# Altium schematic symbol library Schlib_Texas_Instruments.SchLib: 190 symbols (part 2 of 3)
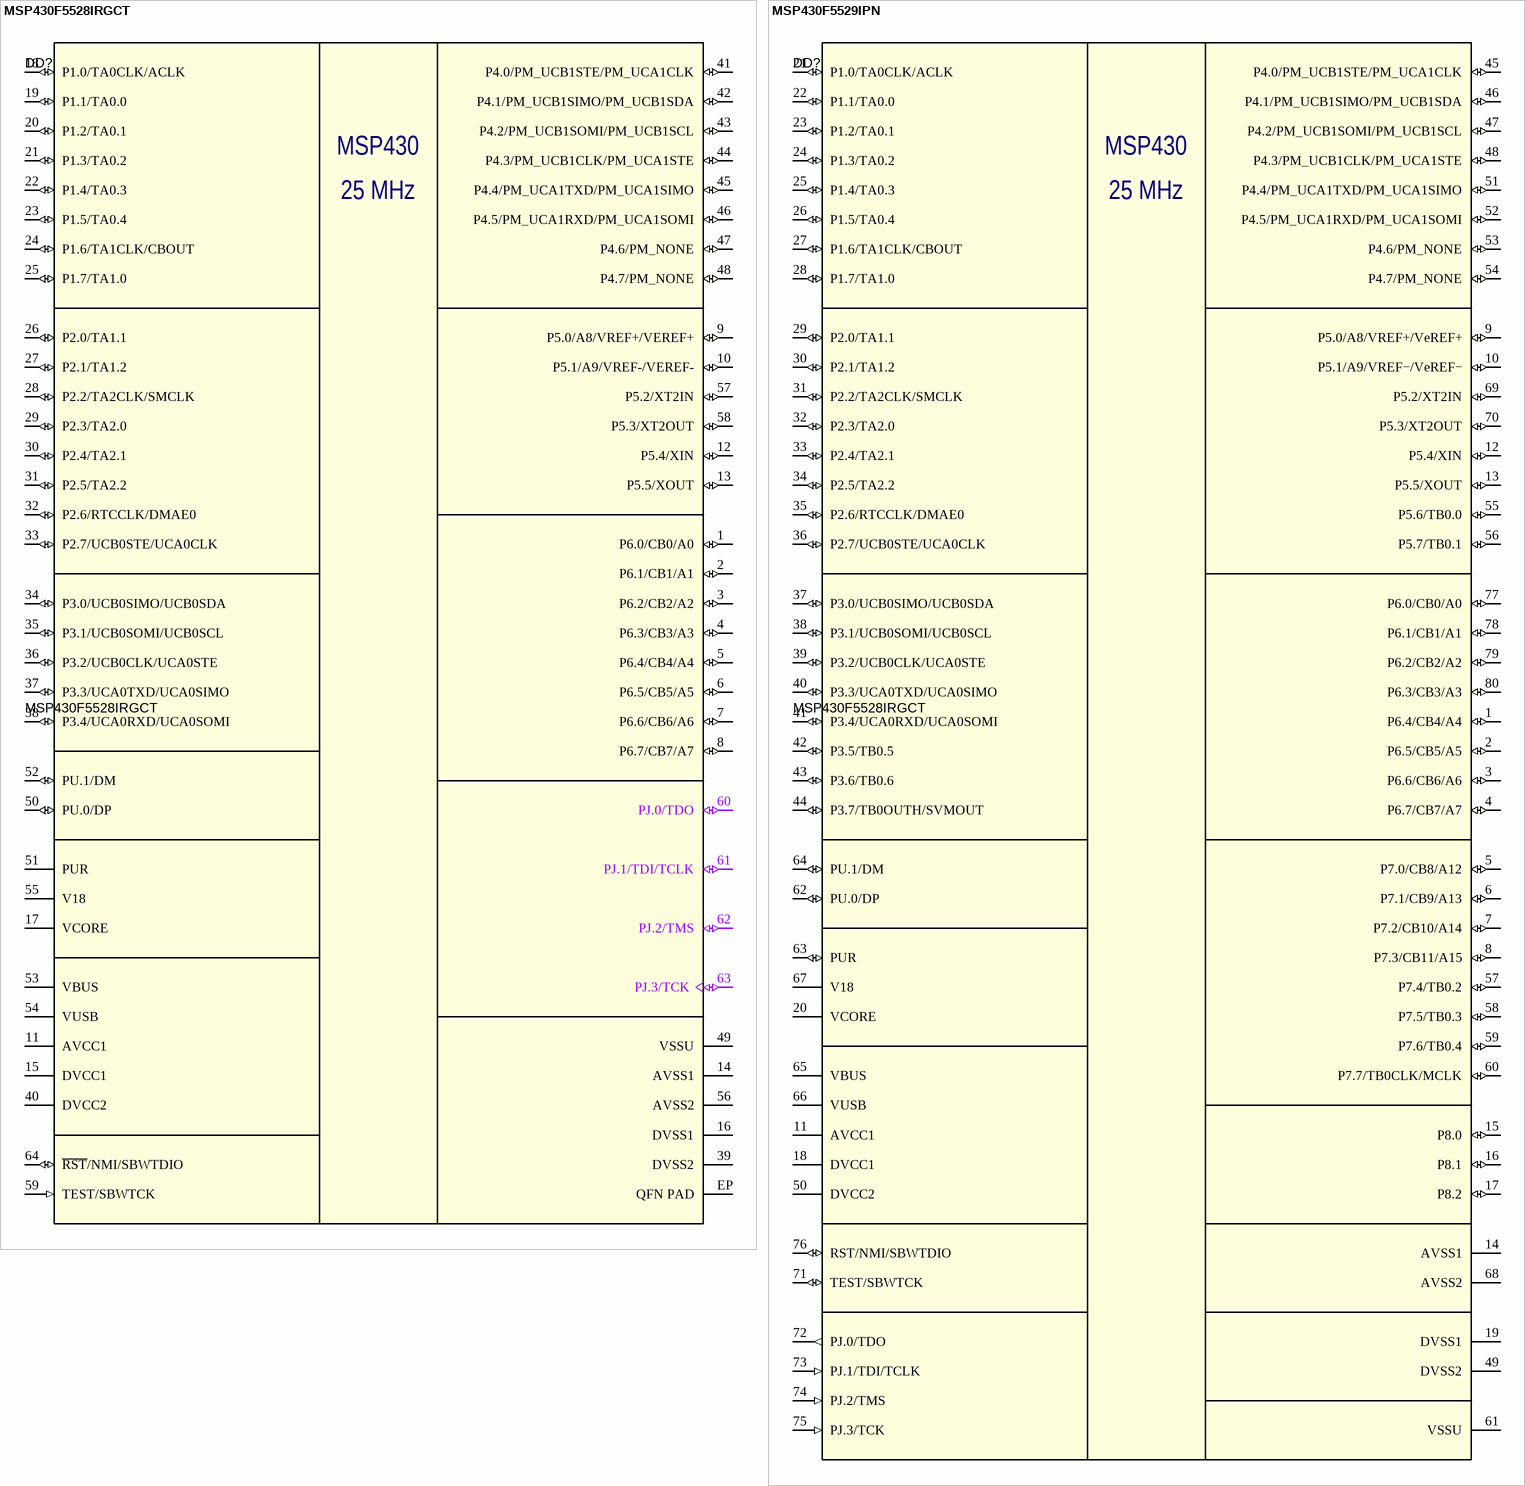
[diagram p26: symbols MSP430F5528IRGCT to MSP430F5529IPN]

## MSP430F5528IRGCT
designator DD?
25 MHz Mixed Signal Microcontroller with 128 KB Flash, 8192 B SRAM and 47 GPIOs, -40 to 85 degC, 64-pin QFN (RGC); Manufacturer: Texas Instruments; Alternate PartNumber: Equivalent; ADC: 12-bit SAR; ADC Channels: 16; Brown Out Reset: Yes; DMA: 3; Eco-Plan: Green (RoHS & no Sb/Br); Flash(KB): 128; Frequency(MHz): 25; GPIO: 47; Multiplier: 32x32; Pin/Package: 64DSBGA, 64VQFN, 80BGA MICROSTAR JUNIOR; SRAM(B): 8192; SubFamily: 5 Series; Timers - 16-bit: 4; USB: 1; USCI_A (UART/LIN/IrDA/SPI): 2; Note: TI Provided; DatasheetVersion: SLAS590I; PackageVersion: 4204106/F, 11/2011; PackageReference: RGC0064B; PackageDescription: 64-Pin Plastic Flat Pack, Body 9 x 9 mm, Pitch 0.5 mm; Comparators: Yes; Real-Time Clock: Yes; SVS: Yes; Temp Sensor: Yes; USCI_B (I2C & SPI): 2; Watchdog: Yes; MountType: SMT; ComponentLink1Description: Manufacturer URL; ComponentLink1URL: http://www.ti.com/; ComponentLink2Description: Datasheet; ComponentLink2URL: http://www.ti.com/general/docs/lit/getliterature.tsp?genericPartNumber=MSP430F5528&fileType=pdf; Part Number: MSP430F5528IRGCT
footprint QFN64 (QFN64 9mm x 9mm, 0.5mm pitch)
pins: 1 P6.0/CB0/A0 (io), 2 P6.1/CB1/A1 (io), 3 P6.2/CB2/A2 (io), 4 P6.3/CB3/A3 (io), 5 P6.4/CB4/A4 (io), 6 P6.5/CB5/A5 (io), 7 P6.6/CB6/A6 (io), 8 P6.7/CB7/A7 (io), 9 P5.0/A8/VREF+/VEREF+ (io), 10 P5.1/A9/VREF-/VEREF- (io), 11 AVCC1 (power) "Analog power supply", 12 P5.4/XIN (io), 13 P5.5/XOUT (io), 14 AVSS1 (power) "Analog ground supply", 15 DVCC1 (power) "Digital power supply", 16 DVSS1 (power) "Digital ground supply", 17 VCORE "Regulated core power supply output (internal use only, no external current loading)", 18 P1.0/TA0CLK/ACLK (io), 19 P1.1/TA0.0 (io), 20 P1.2/TA0.1 (io), 21 P1.3/TA0.2 (io), 22 P1.4/TA0.3 (io), 23 P1.5/TA0.4 (io), 24 P1.6/TA1CLK/CBOUT (io), 25 P1.7/TA1.0 (io), 26 P2.0/TA1.1 (io), 27 P2.1/TA1.2 (io), 28 P2.2/TA2CLK/SMCLK (io), 29 P2.3/TA2.0 (io), 30 P2.4/TA2.1 (io), 31 P2.5/TA2.2 (io), 32 P2.6/RTCCLK/DMAE0 (io), 33 P2.7/UCB0STE/UCA0CLK (io), 34 P3.0/UCB0SIMO/UCB0SDA (io), 35 P3.1/UCB0SOMI/UCB0SCL (io), 36 P3.2/UCB0CLK/UCA0STE (io), 37 P3.3/UCA0TXD/UCA0SIMO (io), 38 P3.4/UCA0RXD/UCA0SOMI (io), 39 DVSS2 (power) "Digital ground supply", 40 DVCC2 (power) "Digital power supply", 41 P4.0/PM_UCB1STE/PM_UCA1CLK (io), 42 P4.1/PM_UCB1SIMO/PM_UCB1SDA (io), 43 P4.2/PM_UCB1SOMI/PM_UCB1SCL (io), 44 P4.3/PM_UCB1CLK/PM_UCA1STE (io), 45 P4.4/PM_UCA1TXD/PM_UCA1SIMO (io), 46 P4.5/PM_UCA1RXD/PM_UCA1SOMI (io), 47 P4.6/PM_NONE (io), 48 P4.7/PM_NONE (io), 49 VSSU (power) "USB PHY ground supply", 50 PU.0/DP (io), 51 PUR "USB pullup resistor pin (open drain). The voltage level at the PUR pin is used to invoke the default USB BSL. Recommended 1-Mohm resistor to ground. See USB BSL for more information.", 52 PU.1/DM (io), 53 VBUS (power) "USB LDO input (connect to USB power source)", 54 VUSB (power) "USB LDO output", 55 V18 "USB regulated power (internal use only, no external current loading)", 56 AVSS2 (power) "Analog ground supply", 57 P5.2/XT2IN (io), 58 P5.3/XT2OUT (io), 59 TEST/SBWTCK (in), 60 PJ.0/TDO (io), 61 PJ.1/TDI/TCLK (io), 62 PJ.2/TMS (io), 63 PJ.3/TCK (io), 64 ~{RST}/NMI/SBWTDIO (io), EP QFN PAD (power) "QFN package pad connection to VSS recommended."
text: MSP430; 25 MHz

## MSP430F5529IPN
designator DD?, comment MSP430F5528IRGCT
25 MHz Mixed Signal Microcontroller with 128 KB Flash, 8KB SRAM and 63 GPIOs, -40 to 85 degC, 64-pin QFN (RGC); Manufacturer: Texas Instruments; Package: LQFP-80; ComponentLink1Description: Manufacturer URL; ComponentLink1URL: http://www.ti.com/; Part Number: MSP430F5528IRGCT
footprint LQFP-80 (LQFP, 80-Leads, Body 12,00x12,00mm, Pitch 0,50mm, IPC Medium Density)
pins: 1 P6.4/CB4/A4 (io), 2 P6.5/CB5/A5 (io), 3 P6.6/CB6/A6 (io), 4 P6.7/CB7/A7 (io), 5 P7.0/CB8/A12 (io), 6 P7.1/CB9/A13 (io), 7 P7.2/CB10/A14 (io), 8 P7.3/CB11/A15 (io), 9 P5.0/A8/VREF+/VeREF+ (io), 10 P5.1/A9/VREF−/VeREF− (io), 11 AVCC1 (power), 12 P5.4/XIN (io), 13 P5.5/XOUT (io), 14 AVSS1 (power), 15 P8.0 (io), 16 P8.1 (io), 17 P8.2 (io), 18 DVCC1 (power), 19 DVSS1 (power), 20 VCORE (power), 21 P1.0/TA0CLK/ACLK (io), 22 P1.1/TA0.0 (io), 23 P1.2/TA0.1 (io), 24 P1.3/TA0.2 (io), 25 P1.4/TA0.3 (io), 26 P1.5/TA0.4 (io), 27 P1.6/TA1CLK/CBOUT (io), 28 P1.7/TA1.0 (io), 29 P2.0/TA1.1 (io), 30 P2.1/TA1.2 (io), 31 P2.2/TA2CLK/SMCLK (io), 32 P2.3/TA2.0 (io), 33 P2.4/TA2.1 (io), 34 P2.5/TA2.2 (io), 35 P2.6/RTCCLK/DMAE0 (io), 36 P2.7/UCB0STE/UCA0CLK (io), 37 P3.0/UCB0SIMO/UCB0SDA (io), 38 P3.1/UCB0SOMI/UCB0SCL (io), 39 P3.2/UCB0CLK/UCA0STE (io), 40 P3.3/UCA0TXD/UCA0SIMO (io), 41 P3.4/UCA0RXD/UCA0SOMI (io), 42 P3.5/TB0.5 (io), 43 P3.6/TB0.6 (io), 44 P3.7/TB0OUTH/SVMOUT (io), 45 P4.0/PM_UCB1STE/PM_UCA1CLK (io), 46 P4.1/PM_UCB1SIMO/PM_UCB1SDA (io), 47 P4.2/PM_UCB1SOMI/PM_UCB1SCL (io), 48 P4.3/PM_UCB1CLK/PM_UCA1STE (io), 49 DVSS2 (power), 50 DVCC2 (power), 51 P4.4/PM_UCA1TXD/PM_UCA1SIMO (io), 52 P4.5/PM_UCA1RXD/PM_UCA1SOMI (io), 53 P4.6/PM_NONE (io), 54 P4.7/PM_NONE (io), 55 P5.6/TB0.0 (io), 56 P5.7/TB0.1 (io), 57 P7.4/TB0.2 (io), 58 P7.5/TB0.3 (io), 59 P7.6/TB0.4 (io), 60 P7.7/TB0CLK/MCLK (io), 61 VSSU (power), 62 PU.0/DP (io), 63 PUR (io), 64 PU.1/DM (io), 65 VBUS (power), 66 VUSB (power), 67 V18 (power), 68 AVSS2 (power), 69 P5.2/XT2IN (io), 70 P5.3/XT2OUT (io), 71 TEST/SBWTCK (io), 72 PJ.0/TDO (out), 73 PJ.1/TDI/TCLK (in), 74 PJ.2/TMS (in), 75 PJ.3/TCK (in), 76 RST/NMI/SBWTDIO (io), 77 P6.0/CB0/A0 (io), 78 P6.1/CB1/A1 (io), 79 P6.2/CB2/A2 (io), 80 P6.3/CB3/A3 (io)
text: MSP430; 25 MHz

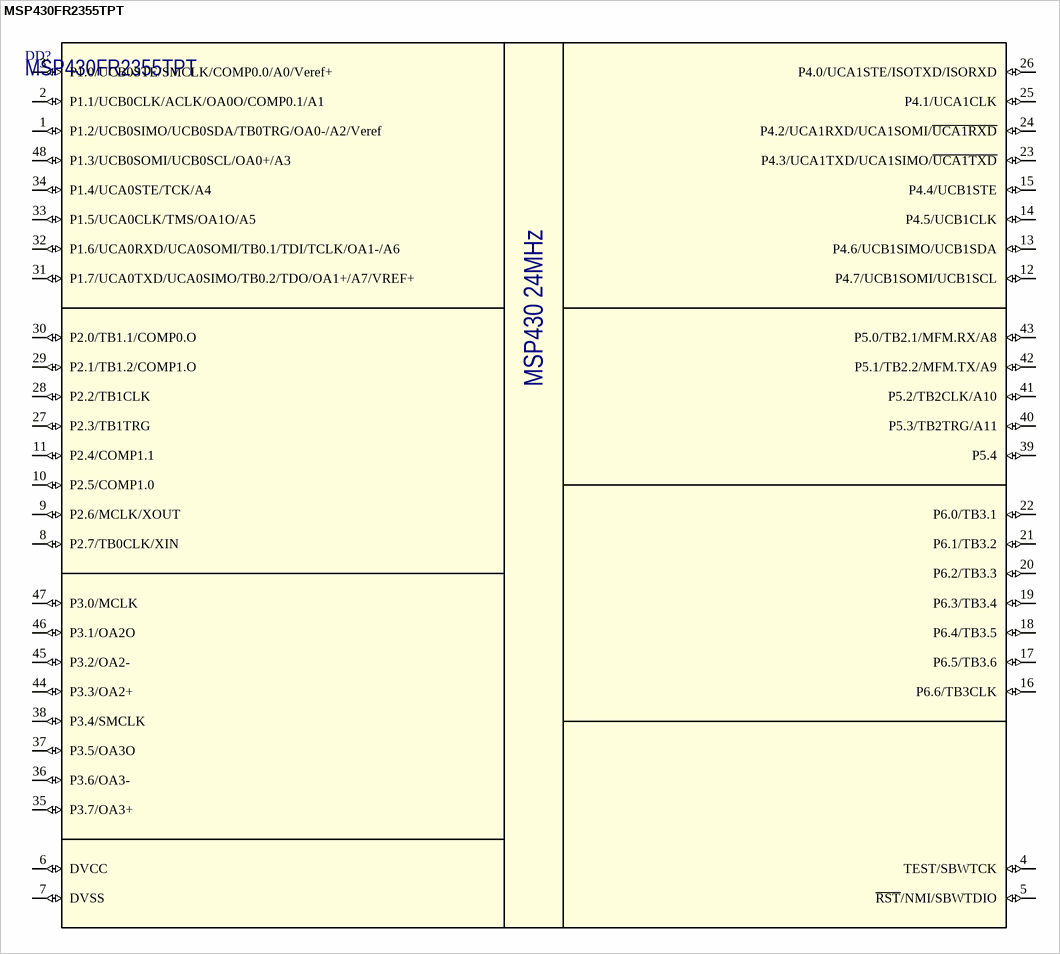
[diagram p12: symbol MSP430FR2355TPT]

## MSP430FR2355TPT
designator DD?
IC MCU 16BIT 32KB FRAM 48LQFP; Manufacturer: Texas Instruments; Part Number: MSP430FR2355TPT; Package: LQFP-48
footprint LQFP-48 (TSQFP, 48-Leads, Body 7,00x7,00mm, Pitch 0,50mm, IPC Medium Density)
pins: 1 P1.2/UCB0SIMO/UCB0SDA/TB0TRG/OA0-/A2/Veref (io), 2 P1.1/UCB0CLK/ACLK/OA0O/COMP0.1/A1 (io), 3 P1.0/UCB0STE/SMCLK/COMP0.0/A0/Veref+ (io), 4 TEST/SBWTCK (io), 5 ~{RST}/NMI/SBWTDIO (io), 6 DVCC (io), 7 DVSS (io), 8 P2.7/TB0CLK/XIN (io), 9 P2.6/MCLK/XOUT (io), 10 P2.5/COMP1.0 (io), 11 P2.4/COMP1.1 (io), 12 P4.7/UCB1SOMI/UCB1SCL (io), 13 P4.6/UCB1SIMO/UCB1SDA (io), 14 P4.5/UCB1CLK (io), 15 P4.4/UCB1STE (io), 16 P6.6/TB3CLK (io), 17 P6.5/TB3.6 (io), 18 P6.4/TB3.5 (io), 19 P6.3/TB3.4 (io), 20 P6.2/TB3.3 (io), 21 P6.1/TB3.2 (io), 22 P6.0/TB3.1 (io), 23 P4.3/UCA1TXD/UCA1SIMO/~{UCA1TXD} (io), 24 P4.2/UCA1RXD/UCA1SOMI/~{UCA1RXD} (io), 25 P4.1/UCA1CLK (io), 26 P4.0/UCA1STE/ISOTXD/ISORXD (io), 27 P2.3/TB1TRG (io), 28 P2.2/TB1CLK (io), 29 P2.1/TB1.2/COMP1.O (io), 30 P2.0/TB1.1/COMP0.O (io), 31 P1.7/UCA0TXD/UCA0SIMO/TB0.2/TDO/OA1+/A7/VREF+ (io), 32 P1.6/UCA0RXD/UCA0SOMI/TB0.1/TDI/TCLK/OA1-/A6 (io), 33 P1.5/UCA0CLK/TMS/OA1O/A5 (io), 34 P1.4/UCA0STE/TCK/A4 (io), 35 P3.7/OA3+ (io), 36 P3.6/OA3- (io), 37 P3.5/OA3O (io), 38 P3.4/SMCLK (io), 39 P5.4 (io), 40 P5.3/TB2TRG/A11 (io), 41 P5.2/TB2CLK/A10 (io), 42 P5.1/TB2.2/MFM.TX/A9 (io), 43 P5.0/TB2.1/MFM.RX/A8 (io), 44 P3.3/OA2+ (io), 45 P3.2/OA2- (io), 46 P3.1/OA2O (io), 47 P3.0/MCLK (io), 48 P1.3/UCB0SOMI/UCB0SCL/OA0+/A3 (io)
text: MSP430 24MHz

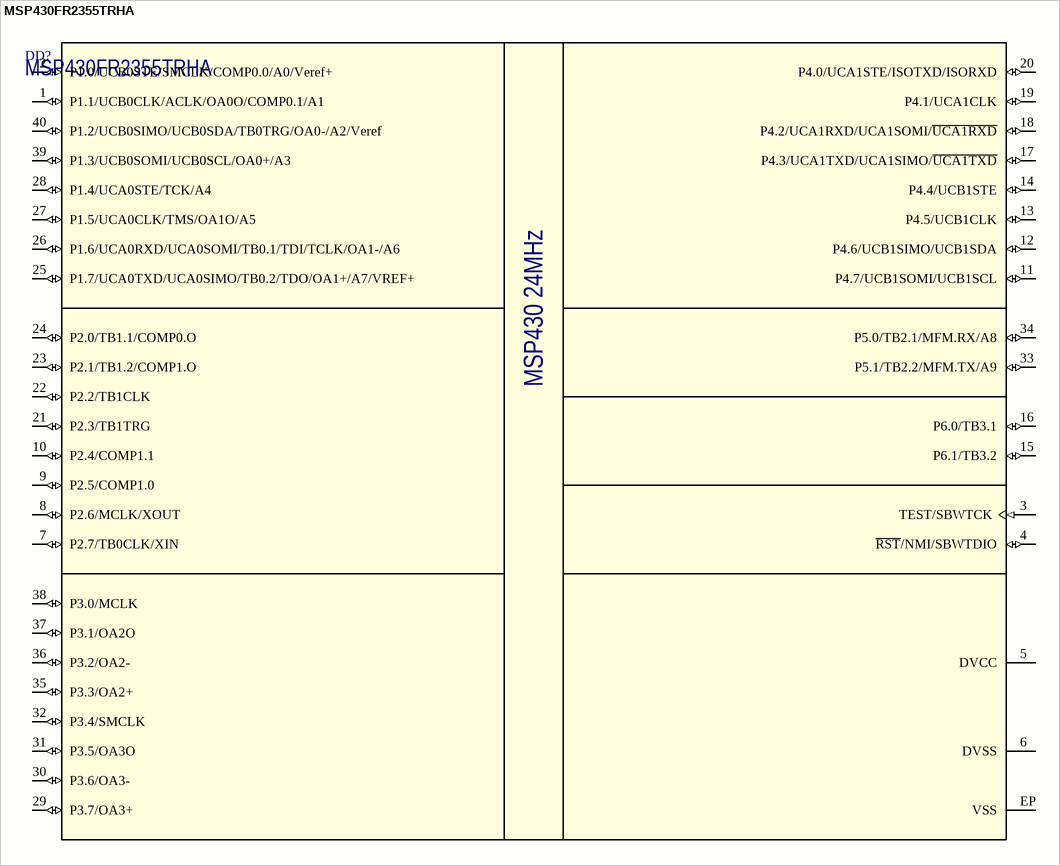
[diagram p13: symbol MSP430FR2355TRHA]

## MSP430FR2355TRHA
designator DD?
IC MCU 16BIT 32KB FRAM 40VQFN; Manufacturer: Texas Instruments; Part Number: MSP430FR2355TRHA; Package: VQFN-40
footprint PVQFN40
pins: 1 P1.1/UCB0CLK/ACLK/OA0O/COMP0.1/A1 (io), 2 P1.0/UCB0STE/SMCLK/COMP0.0/A0/Veref+ (io), 3 TEST/SBWTCK (in), 4 ~{RST}/NMI/SBWTDIO (io), 5 DVCC (power), 6 DVSS (power), 7 P2.7/TB0CLK/XIN (io), 8 P2.6/MCLK/XOUT (io), 9 P2.5/COMP1.0 (io), 10 P2.4/COMP1.1 (io), 11 P4.7/UCB1SOMI/UCB1SCL (io), 12 P4.6/UCB1SIMO/UCB1SDA (io), 13 P4.5/UCB1CLK (io), 14 P4.4/UCB1STE (io), 15 P6.1/TB3.2 (io), 16 P6.0/TB3.1 (io), 17 P4.3/UCA1TXD/UCA1SIMO/~{UCA1TXD} (io), 18 P4.2/UCA1RXD/UCA1SOMI/~{UCA1RXD} (io), 19 P4.1/UCA1CLK (io), 20 P4.0/UCA1STE/ISOTXD/ISORXD (io), 21 P2.3/TB1TRG (io), 22 P2.2/TB1CLK (io), 23 P2.1/TB1.2/COMP1.O (io), 24 P2.0/TB1.1/COMP0.O (io), 25 P1.7/UCA0TXD/UCA0SIMO/TB0.2/TDO/OA1+/A7/VREF+ (io), 26 P1.6/UCA0RXD/UCA0SOMI/TB0.1/TDI/TCLK/OA1-/A6 (io), 27 P1.5/UCA0CLK/TMS/OA1O/A5 (io), 28 P1.4/UCA0STE/TCK/A4 (io), 29 P3.7/OA3+ (io), 30 P3.6/OA3- (io), 31 P3.5/OA3O (io), 32 P3.4/SMCLK (io), 33 P5.1/TB2.2/MFM.TX/A9 (io), 34 P5.0/TB2.1/MFM.RX/A8 (io), 35 P3.3/OA2+ (io), 36 P3.2/OA2- (io), 37 P3.1/OA2O (io), 38 P3.0/MCLK (io), 39 P1.3/UCB0SOMI/UCB0SCL/OA0+/A3 (io), 40 P1.2/UCB0SIMO/UCB0SDA/TB0TRG/OA0-/A2/Veref (io), EP VSS (power)
text: MSP430 24MHz

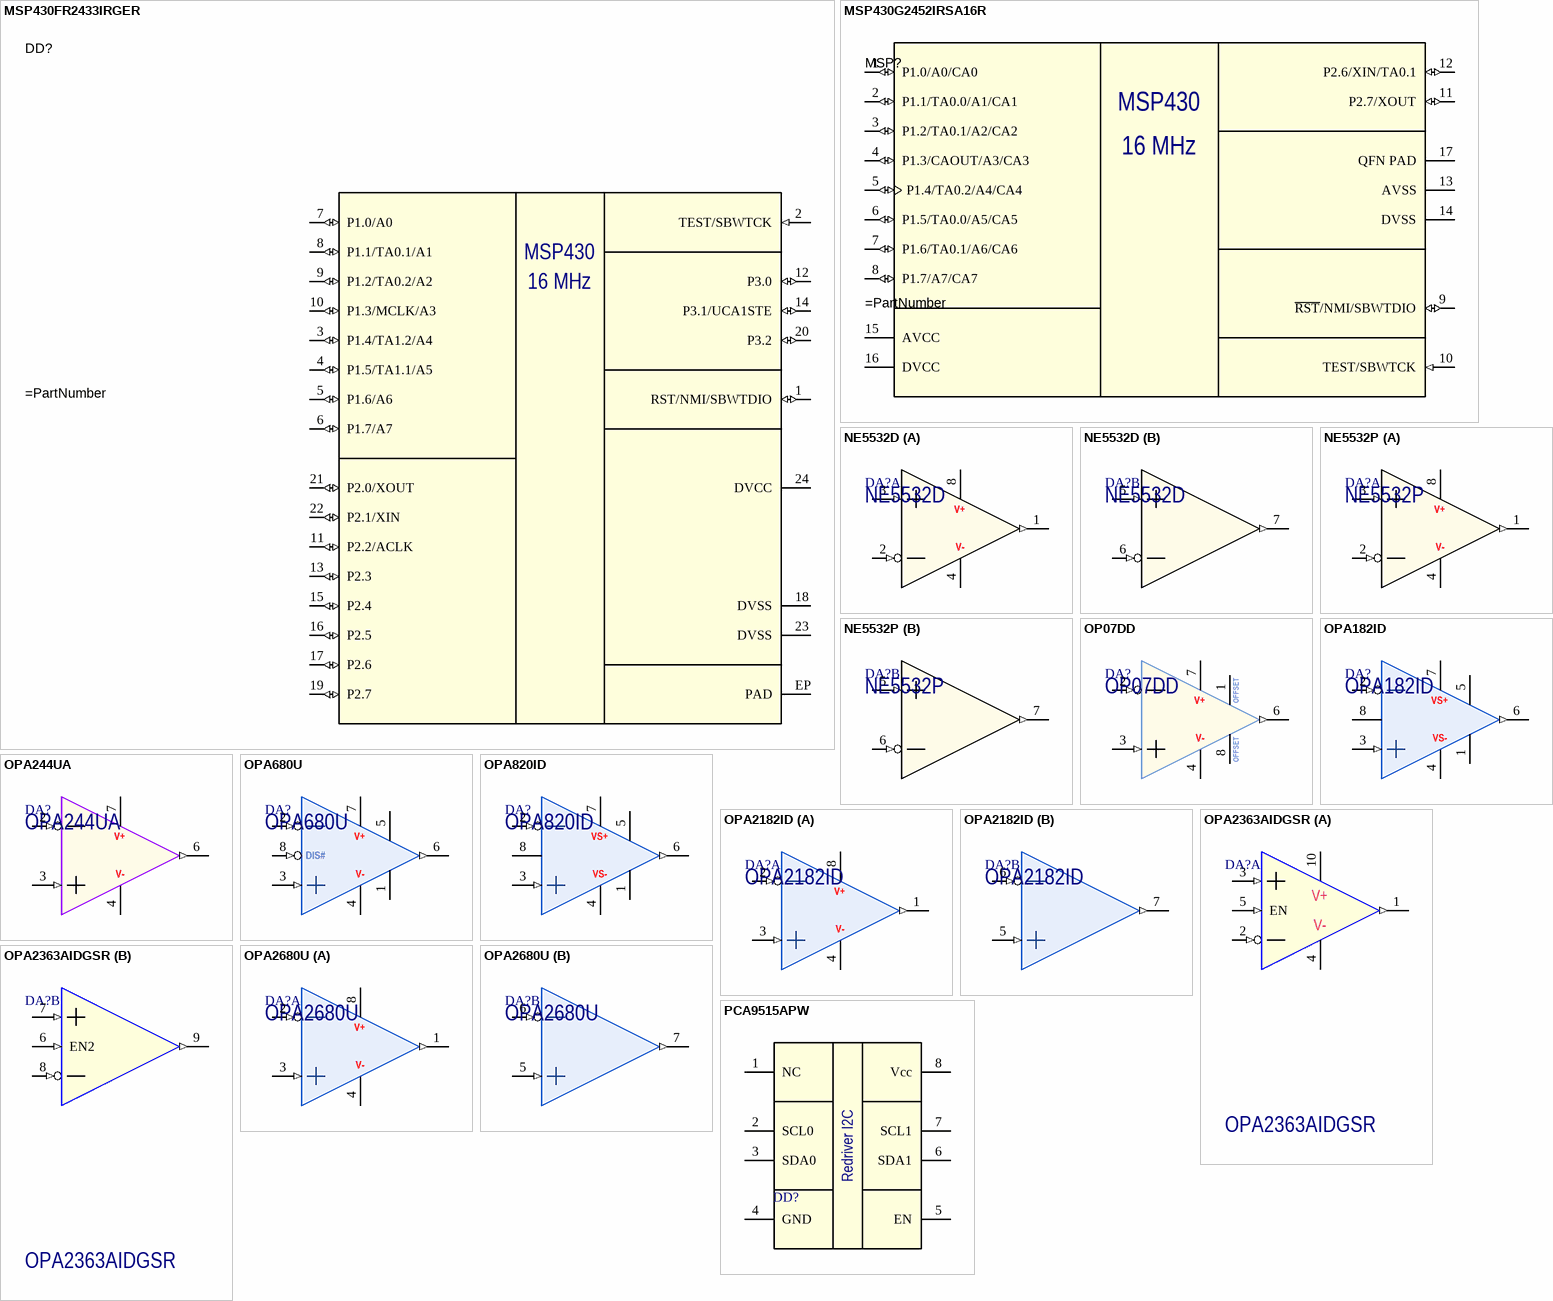
[diagram p14: symbols MSP430FR2433IRGER to PCA9515APW]

## MSP430FR2433IRGER
designator DD?
MSP430FR2433 16 MHz Ultra-Low-Power Microcontroller with 16 KB FRAM, 4 KB RAM, 19 IO, 4 Timers, RGE0024H (VQFN-24); Part Number: MSP430FR2433IRGER; Alternate Part Number: MSP430FR2433IRGET; Manufacturer: Texas Instruments; SymbolCreator: Altium; SizeArea_mm2: 16; SizeAreaWB_mm2: 25; SizeX_mm: 4; SizeZ_mm: 1; CompType: IC; U/M: EA; Note: TI Provided; SymbolVersion: 2015-09-16; PackageReference: RGE0024H; PackageDescription: VQFN-24; MountType: SMT; SizeY_mm: 4; ComponentLink1Description: Datasheet Link; ComponentLink1URL: http://www.ti.com/lit/ds/symlink/msp430fr2433.pdf; Publisher: Texas Instruments; LatestRevisionDate: 2017-03-06; Alternate Manufacturer: Texas Instruments
footprint QFN24 (QFN, 24-Leads, Body 4.00x4.00mm, Pitch 0.50mm, Thermal Pad 2.50x2.50mm, IPC Medium Density)
pins: 1 RST/NMI/SBWTDIO (io), 2 TEST/SBWTCK (in), 3 P1.4/TA1.2/A4 (io), 4 P1.5/TA1.1/A5 (io), 5 P1.6/A6 (io), 6 P1.7/A7 (io), 7 P1.0/A0 (io), 8 P1.1/TA0.1/A1 (io), 9 P1.2/TA0.2/A2 (io), 10 P1.3/MCLK/A3 (io), 11 P2.2/ACLK (io), 12 P3.0 (io), 13 P2.3 (io), 14 P3.1/UCA1STE (io), 15 P2.4 (io), 16 P2.5 (io), 17 P2.6 (io), 18 DVSS (power), 19 P2.7 (io), 20 P3.2 (io), 21 P2.0/XOUT (io), 22 P2.1/XIN (io), 23 DVSS (power), 24 DVCC (power), EP PAD (power)
text: MSP430; 16 MHz

## MSP430G2452IRSA16R
designator MSP?
16 MHz Mixed Signal Microcontroller with 8 KB Flash, 256 B SRAM and 16 GPIOs, 16-pin QFN (RSA), Green (RoHS & no Sb/Br); Manufacturer: Texas Instruments; Alternate PartNumber: Equivalent; Part Number: MSP430G2452IRSA16R; ADC: 10-bit SAR; ADC Channels: 8; Brown Out Reset: Yes; Frequency(MHz): 16; Pin/Package: 14TSSOP, 16QFN, 20PDIP, 20TSSOP; SRAM(B): 256; SubFamily: Value Line; Timers - 16-bit: 1; USI: (I2C/SPI); Note: TI Provided; DatasheetVersion: SLAS722E; PackageVersion: 4205141/D, 06/2011; PackageReference: RSA0016B; PackageDescription: 16-Pin Plastic Flat Pack, Body 4.00 x 4.00 mm, Pitch 0.65 mm; Cap touch I/O: Yes; Comparators: Yes; Eco-Plan: Green (RoHS & no Sb/Br); Flash(KB): 8; GPIO: 16; Temp Sensor: Yes; Watchdog: Yes; MountType: SMT; Code_JEDEC: MO-220; ComponentLink1Description: Manufacturer URL; ComponentLink1URL: http://www.ti.com/; ComponentLink2Description: Datasheet; ComponentLink2URL: http://www.ti.com/general/docs/lit/getliterature.tsp?genericPartNumber=MSP430G2452&fileType=pdf
pins: 1 P1.0/A0/CA0 (io), 2 P1.1/TA0.0/A1/CA1 (io), 3 P1.2/TA0.1/A2/CA2 (io), 4 P1.3/CAOUT/A3/CA3 (io), 5 P1.4/TA0.2/A4/CA4 (io), 6 P1.5/TA0.0/A5/CA5 (io), 7 P1.6/TA0.1/A6/CA6 (io), 8 P1.7/A7/CA7 (io), 9 ~{RST}/NMI/SBWTDIO (io), 10 TEST/SBWTCK (in), 11 P2.7/XOUT (io), 12 P2.6/XIN/TA0.1 (io), 13 AVSS (power) "Ground reference", 14 DVSS (power) "Ground reference", 15 AVCC (power) "Supply voltage", 16 DVCC (power) "Supply voltage", 17 QFN PAD (power) "QFN package pad connection to VSS recommended"
text: MSP430; 16 MHz

## NE5532D
designator DA?
DUAL LOW-NOISE OPERATIONAL AMPLIFIERS; Manufacturer: Texas Instruments; Part Number: NE5532D; Package: SOIC-8
footprint SOIC-8 (SOIC-8 package)
part A pins: 1 1OUT (out), 2 1IN- (in), 3 1IN+ (in), 4 GND (power), 8 VCC (power)
part B pins: 5 2IN+ (in), 6 2IN- (in), 7 2OUT (out)
part A text: V+; V-

## NE5532P
designator DA?
DUAL LOW-NOISE OPERATIONAL AMPLIFIERS; Manufacturer: Texas Instruments; Part Number: NE5532P; Package: DIP-8
footprint DIP-8P-M01 (Plastic DIP, 8 pin, lead pitch 2.54mm (0.1"), row spacing 7.62mm (0.3").)
footprint DIP-8P-M01_with_SO8 (Plastic DIP, 8 pin, lead pitch 2.54mm (0.1"), row spacing 7.62mm (0.3").)
part A pins: 1 1OUT (out), 2 1IN- (in), 3 1IN+ (in), 4 GND (power), 8 VCC (power)
part B pins: 5 2IN+ (in), 6 2IN- (in), 7 2OUT (out)
part A text: V+; V-

## OP07DD
designator DA?
Precision Operational Amplifiers; Manufacturer: Texas Instruments; Part Number: OP07DD; Package: SOIC-8
footprint SOIC-8 (SOIC-8 package)
pins: 1 OFFSET_N1 (power), 2 1IN- (in), 3 1IN+ (in), 4 V- (power), 6 1OUT (out), 7 V+ (power), 8 OFFSET_N2 (power)
text: OFFSET

## OPA182ID
designator DA?
5 MHz Low-Noise, Zero-Drift, Precision Op Amps; Manufacturer: Texas Instruments; Part Number: OPA182ID; Package: SOIC-8
footprint SOIC-8 (SOIC-8 package)
pins: 1 NC (hiz), 2 1IN- (in), 3 1IN+ (in), 4 V- (power), 5 NC (hiz), 6 1OUT (out), 7 V+ (power), 8 DIS (hiz)
text: VS+; VS-

## OPA244UA
designator DA?
Single-Supply Low Power Operational Amplifiers; Manufacturer: Texas Instruments; Part Number: OPA244UA; Package: SO-8
footprint SOIC-8 (SOIC-8 package)
pins: 2 1IN- (in), 3 1IN+ (in), 4 V- (power), 6 1OUT (out), 7 V+ (power)

## OPA680U
designator DA?
Wideband, Voltage Feedback / OPERATIONAL AMPLIFIER With Disable; Manufacturer: Texas Instruments; Part Number: OPA680U; Package: SO-8
footprint SOIC-8 (SOIC-8 package)
pins: 1 NC (hiz), 2 1IN- (in), 3 1IN+ (in), 4 V- (power), 5 NC (hiz), 6 1OUT (out), 7 V+ (power), 8 DIS (in)
text: DIS#

## OPA820ID
designator DA?
Voltage-Feedback Operational Amplifier; Manufacturer: Texas Instruments; Part Number: OPA820ID; Package: SOIC-8
footprint SOIC-8 (SOIC-8 package)
pins: 1 NC (hiz), 2 1IN- (in), 3 1IN+ (in), 4 V- (power), 5 NC (hiz), 6 1OUT (out), 7 V+ (power), 8 DIS (hiz)
text: VS+; VS-

## OPA2182ID
designator DA?
Dual 5 MHz Low-Noise, Zero-Drift, Precision Op Amps; Manufacturer: Texas Instruments; Part Number: OPA2182ID; Package: SO-8
footprint SOIC-8 (SOIC-8 package)
part A pins: 1 1OUT (out), 2 1IN- (in), 3 1IN+ (in), 4 V- (power), 8 V+ (power)
part B pins: 5 2IN+ (in), 6 2IN- (in), 7 2OUT (out)

## OPA2363AIDGSR
designator DA?
Single-Supply, Rail-to-Rail I/O  Operational Amplifier; Manufacturer: Texas Instruments; Part Number: OPA2363AIDGSR; Package: MSOP-10
footprint MSOP-10 (TSOP, 8-Leads, Body 3.00x3.00mm, Pitch 0.65mm, IPC Medium Density)
part A pins: 1 OUT1 (out), 2 IN1- (in), 3 IN1+ (in), 4 V- (power), 5 EN (in), 10 V+ (power)
part B pins: 6 EN2 (in), 7 IN2+ (in), 8 IN2- (in), 9 OUT2 (out)

## OPA2680U
designator DA?
Dual Wideband, Voltage Feedback / Operational Amplifier; Manufacturer: Texas Instruments; Part Number: OPA2680U; Package: SO-8
footprint SOIC-8 (SOIC-8 package)
part A pins: 1 1OUT (out), 2 1IN- (in), 3 1IN+ (in), 4 V- (power), 8 V+ (power)
part B pins: 5 2IN+ (in), 6 2IN- (in), 7 2OUT (out)

## PCA9515APW
designator DD?
1-Channel IC Redriver I2C; Manufacturer: Texas Instruments; Part Number: PCA9515APW; Package: TSSOP-8; Author: Sklyarov
footprint TSSOP-8 (TSOP, 8-Leads, Body 3,00x3,00mm, Pitch 0,65mm, IPC Medium Density)
pins: 1 NC, 2 SCL0, 3 SDA0, 4 GND, 5 EN, 6 SDA1, 7 SCL1, 8 Vcc
text: Redriver I2C

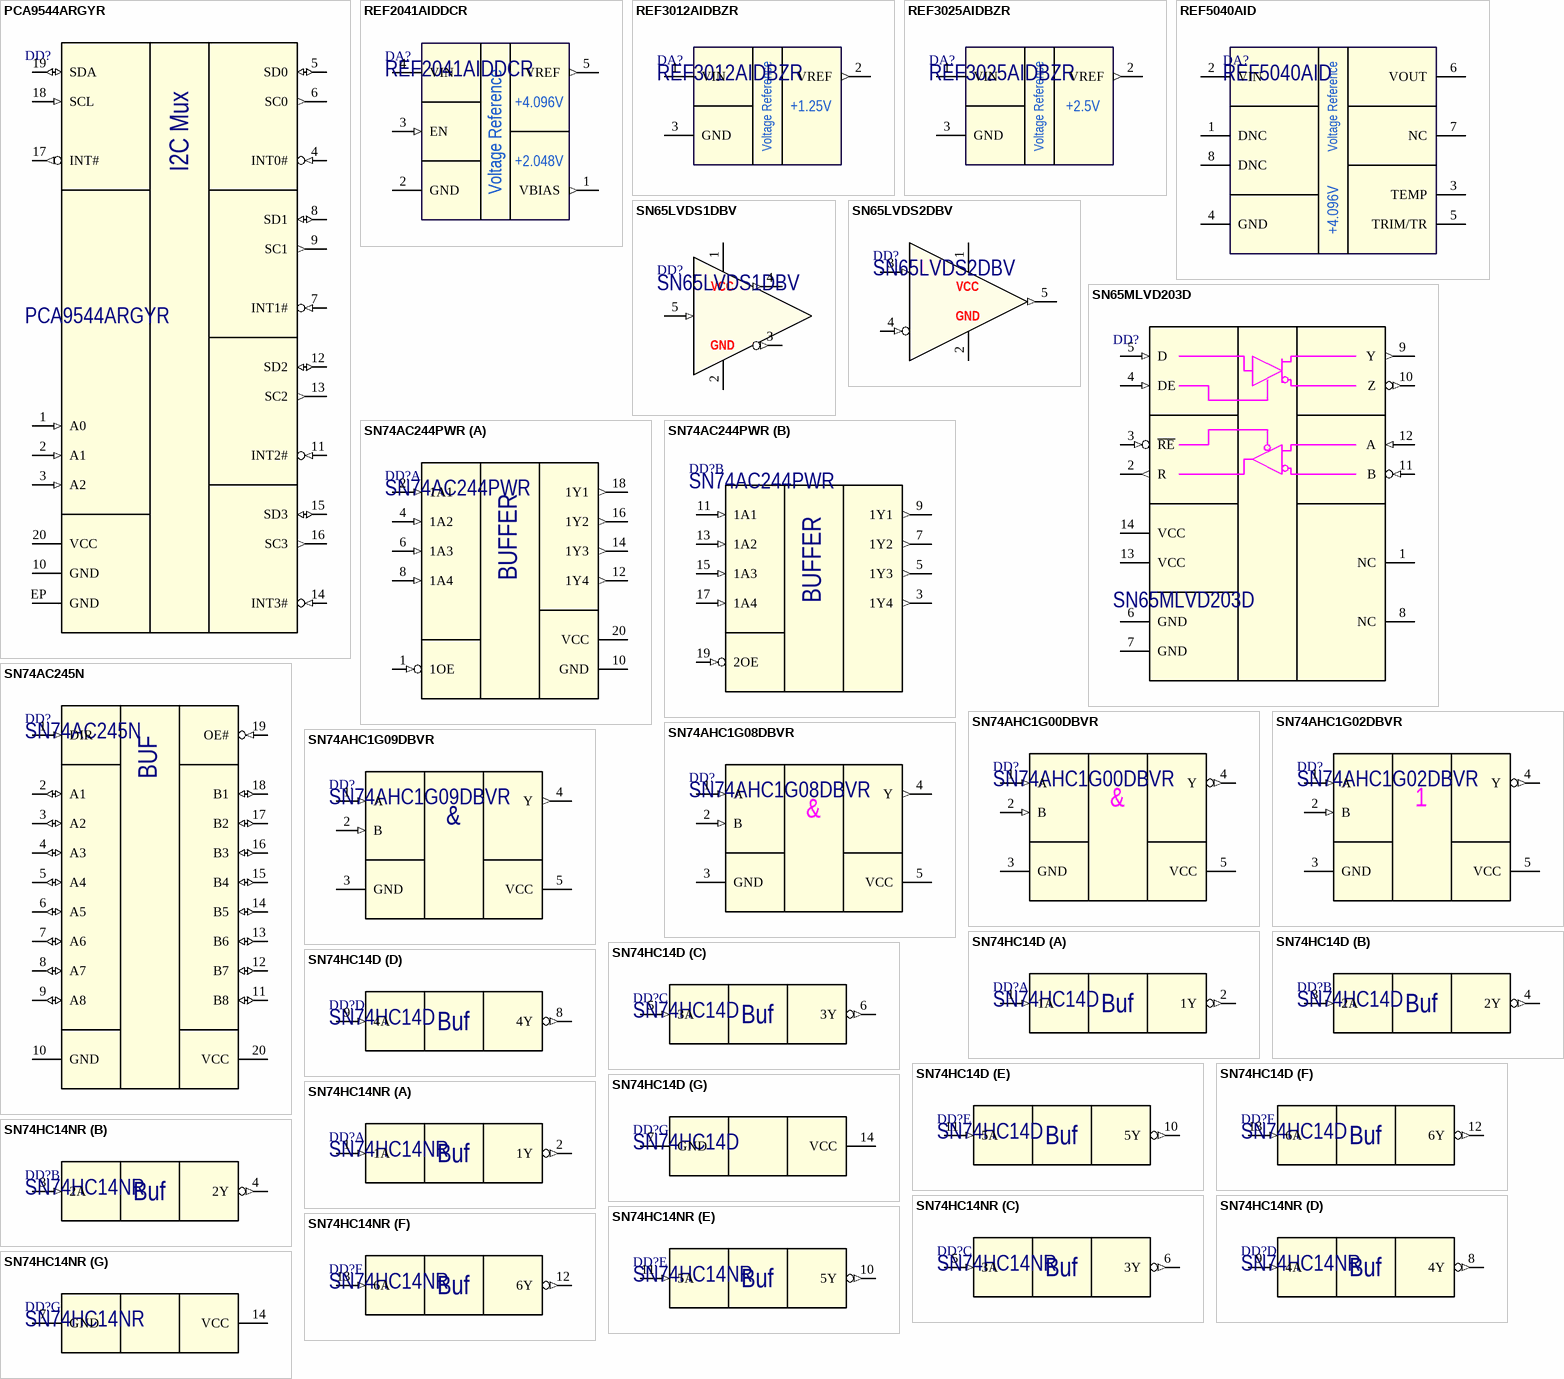
[diagram p15: symbols PCA9544ARGYR to SN74HC14NR]

## PCA9544ARGYR
designator DD?
Low Voltage 4-Channel I2C and SMBus Multiplexer With Interrupt Logic; Manufacturer: Texas Instruments; Part Number: PCA9544ARGYR; Package: VQFN-20
footprint VQFN-20(4.5x3.5) (VQFN-20 package 4.5x3.5mm with 0.5mm pitch)
pins: 1 A0 (in), 2 A1 (in), 3 A2 (in), 4 INT0# (in), 5 SD0 (io), 6 SC0 (out), 7 INT1# (in), 8 SD1 (io), 9 SC1 (out), 10 GND (power), 11 INT2# (in), 12 SD2 (io), 13 SC2 (out), 14 INT3# (in), 15 SD3 (io), 16 SC3 (out), 17 INT# (out), 18 SCL (in), 19 SDA (io), 20 VCC (power), EP GND (power)
text: I2C Mux

## REF2041AIDDCR
designator DA?
Low-Drift, Low-Power, Dual-Output,VREF and VREF / 2 Voltage References; Manufacturer: Texas Instruments; Part Number: REF2041AIDDCR; Package: SOT23-5
footprint SOT23-5 (SOT23, 6-Leads, Body 2.90x2.80mm, Pitch 0.95mm, IPC Medium Density)
pins: 1 VBIAS (out), 2 GND (power), 3 EN (in), 4 VIN (power), 5 VREF (out)
text: +4.096V; Voltage Reference; +2.048V

## REF3012AIDBZR
designator DA?
50-ppm/°C Max, 50-μA, CMOS Voltage Reference; Manufacturer: Texas Instruments; Part Number: REF3012AIDBZR; Package: SOT23-3
footprint SOT23-3 (SOT23, 6-Leads, Body 2.90x2.80mm, Pitch 0.95mm, IPC Medium Density)
pins: 1 VIN (power), 2 VREF (out), 3 GND (power)
text: Voltage Reference; +1.25V

## REF3025AIDBZR
designator DA?
50-ppm/°C Max, 50-μA, CMOS Voltage Reference; Manufacturer: Texas Instruments; Part Number: REF3025AIDBZR; Package: SOT23-3
footprint SOT23-3 (SOT23, 6-Leads, Body 2.90x2.80mm, Pitch 0.95mm, IPC Medium Density)
pins: 1 VIN (power), 2 VREF (out), 3 GND (power)
text: Voltage Reference; +2.5V

## REF5040AID
designator DA?
Low-Noise, Very Low Drift, Precision Voltage Reference; Manufacturer: Texas Instruments; Part Number: REF5040AID; Package: SOIC-8
footprint SOIC-8 (SOIC-8 package)
pins: 1 DNC (hiz), 2 VIN (power), 3 TEMP, 4 GND (power), 5 TRIM/TR, 6 VOUT (power), 7 NC (hiz), 8 DNC (hiz)
text: Voltage Reference; +4.096V

## SN65LVDS1DBV
designator DD?
High-Speed Differential Line Driver; Manufacturer: Texas Instruments; Part Number: SN65LVDS1DBV; Package: SOT23-5
footprint SOT23-5 (SOT23, 6-Leads, Body 2.90x2.80mm, Pitch 0.95mm, IPC Medium Density)
pins: 1 VCC (power), 2 GND (power), 3 Z (out), 4 Y (out), 5 D (in)

## SN65LVDS2DBV
designator DD?
High-Speed Differential Receiver; Manufacturer: Texas Instruments; Part Number: SN65LVDS2DBV; Package: SOT23-5
footprint SOT23-5 (SOT23, 6-Leads, Body 2.90x2.80mm, Pitch 0.95mm, IPC Medium Density)
pins: 1 VCC (power), 2 GND (power), 3 A (in), 4 B (in), 5 R (out)

## SN65MLVD203D
designator DD?
MULTIPOINT-LVDS LINE DRIVER AND RECEIVER; Manufacturer: Texas Instruments; Part Number: SN65MLVD203D; Package: SOIC-14
footprint SOIC-14 (package SOIC-14, 150 mil)
pins: 1 NC (hiz), 2 R (out), 3 ~{RE} (in), 4 DE (in), 5 D (in), 6 GND (power), 7 GND (power), 8 NC (hiz), 9 Y (out), 10 Z (out), 11 B (in), 12 A (in), 13 VCC (power), 14 VCC (power)

## SN74AC244PWR
designator DD?
OCTAL BUFFERS/DRIVERS WITH 3-STATE OUTPUTS; Manufacturer: Texas Instruments; Part Number: SN74AC244PWR; Package: TSSOP-20
footprint TSSOP-20 (TSOP, 20-Leads, Body 6.50x4.40mm, Pitch 0.65mm, IPC Medium Density)
part A pins: 1 1OE (in), 2 1A1 (in), 4 1A2 (in), 6 1A3 (in), 8 1A4 (in), 10 GND (power), 12 1Y4 (out), 14 1Y3 (out), 16 1Y2 (out), 18 1Y1 (out), 20 VCC (power)
part B pins: 3 1Y4 (out), 5 1Y3 (out), 7 1Y2 (out), 9 1Y1 (out), 11 1A1 (in), 13 1A2 (in), 15 1A3 (in), 17 1A4 (in), 19 2OE (in)
part A text: BUFFER
part B text: BUFFER

## SN74AC245N
designator DD?
8-bit Bus Transceiver with 3-state outputs; Manufacturer: Texas Instruments; Part Number: SN74AC245N; Package: DIP-20
footprint DIP-20P-M01 (Plastic DIP, 20 pin, lead pitch 2.54mm (0.1"), row spacing 7.62mm (0.3"))
pins: 1 DIR (in), 2 A1 (io), 3 A2 (io), 4 A3 (io), 5 A4 (io), 6 A5 (io), 7 A6 (io), 8 A7 (io), 9 A8 (io), 10 GND (power), 11 B8 (io), 12 B7 (io), 13 B6 (io), 14 B5 (io), 15 B4 (io), 16 B3 (io), 17 B2 (io), 18 B1 (io), 19 OE# (in), 20 VCC (power)
text: BUF

## SN74AHC1G00DBVR
designator DD?
Single 2–Input Positive-NAND Gate; Manufacturer: Texas Instruments; Part Number: SN74AHC1G00DBVR; Package: SOT23-5
footprint SOT23-5 (SOT23, 6-Leads, Body 2.90x2.80mm, Pitch 0.95mm, IPC Medium Density)
pins: 1 A (in), 2 B (in), 3 GND (power), 4 Y (out), 5 VCC (power)
text: &

## SN74AHC1G02DBVR
designator DD?
Single 2–Input Positive-NOR Gate; Manufacturer: Texas Instruments; Part Number: SN74AHC1G02DBVR; Package: SOT23-5
footprint SOT23-5 (SOT23, 6-Leads, Body 2.90x2.80mm, Pitch 0.95mm, IPC Medium Density)
pins: 1 A (in), 2 B (in), 3 GND (power), 4 Y (out), 5 VCC (power)

## SN74AHC1G08DBVR
designator DD?
Single 2–Input Positive-AND Gate; Manufacturer: Texas Instruments; Part Number: SN74AHC1G08DBVR; Package: SOT23-5
footprint SOT23-5 (SOT23, 6-Leads, Body 2.90x2.80mm, Pitch 0.95mm, IPC Medium Density)
pins: 1 A (in), 2 B (in), 3 GND (power), 4 Y (out), 5 VCC (power)
text: &

## SN74AHC1G09DBVR
designator DD?
Single 2–Input Positive-AND Gate With Open-Drain Output; Manufacturer: Texas Instruments; Part Number: SN74AHC1G09DBVR; Package: SOT23-5
footprint SOT23-5 (SOT23, 6-Leads, Body 2.90x2.80mm, Pitch 0.95mm, IPC Medium Density)
pins: 1 A (in), 2 B (in), 3 GND (power), 4 Y (out), 5 VCC (power)
text: &

## SN74HC14D
designator DD?
Hex Inverters with Schmitt-Trigger Inputs; Manufacturer: Texas Instruments; Part Number: SN74HC14D; Package: SOIC-14
footprint SOIC-14 (package SOIC-14, 150 mil)
part A pins: 1 1A (in), 2 1Y (out)
part B pins: 3 2A (in), 4 2Y (out)
part C pins: 5 3A (in), 6 3Y (out)
part D pins: 8 4Y (out), 9 4A (in)
part E pins: 10 5Y (out), 11 5A (in)
part F pins: 12 6Y (out), 13 6A (in)
part G pins: 7 GND (power), 14 VCC (power)
part A text: Buf
part B text: Buf
part C text: Buf
part D text: Buf
part E text: Buf
part F text: Buf

## SN74HC14NR
designator DD?
Hex Inverters with Schmitt-Trigger Inputs; Manufacturer: Texas Instruments; Part Number: SN74HC14NR; Package: DIP-14
footprint DIP-14P-M02 (Plastic DIP, 14 pin, lead pitch 2.54mm (0.1"), row spacing 7.62mm (0.3"))
part A pins: 1 1A (in), 2 1Y (out)
part B pins: 3 2A (in), 4 2Y (out)
part C pins: 5 3A (in), 6 3Y (out)
part D pins: 8 4Y (out), 9 4A (in)
part E pins: 10 5Y (out), 11 5A (in)
part F pins: 12 6Y (out), 13 6A (in)
part G pins: 7 GND (power), 14 VCC (power)
part A text: Buf
part B text: Buf
part C text: Buf
part D text: Buf
part E text: Buf
part F text: Buf

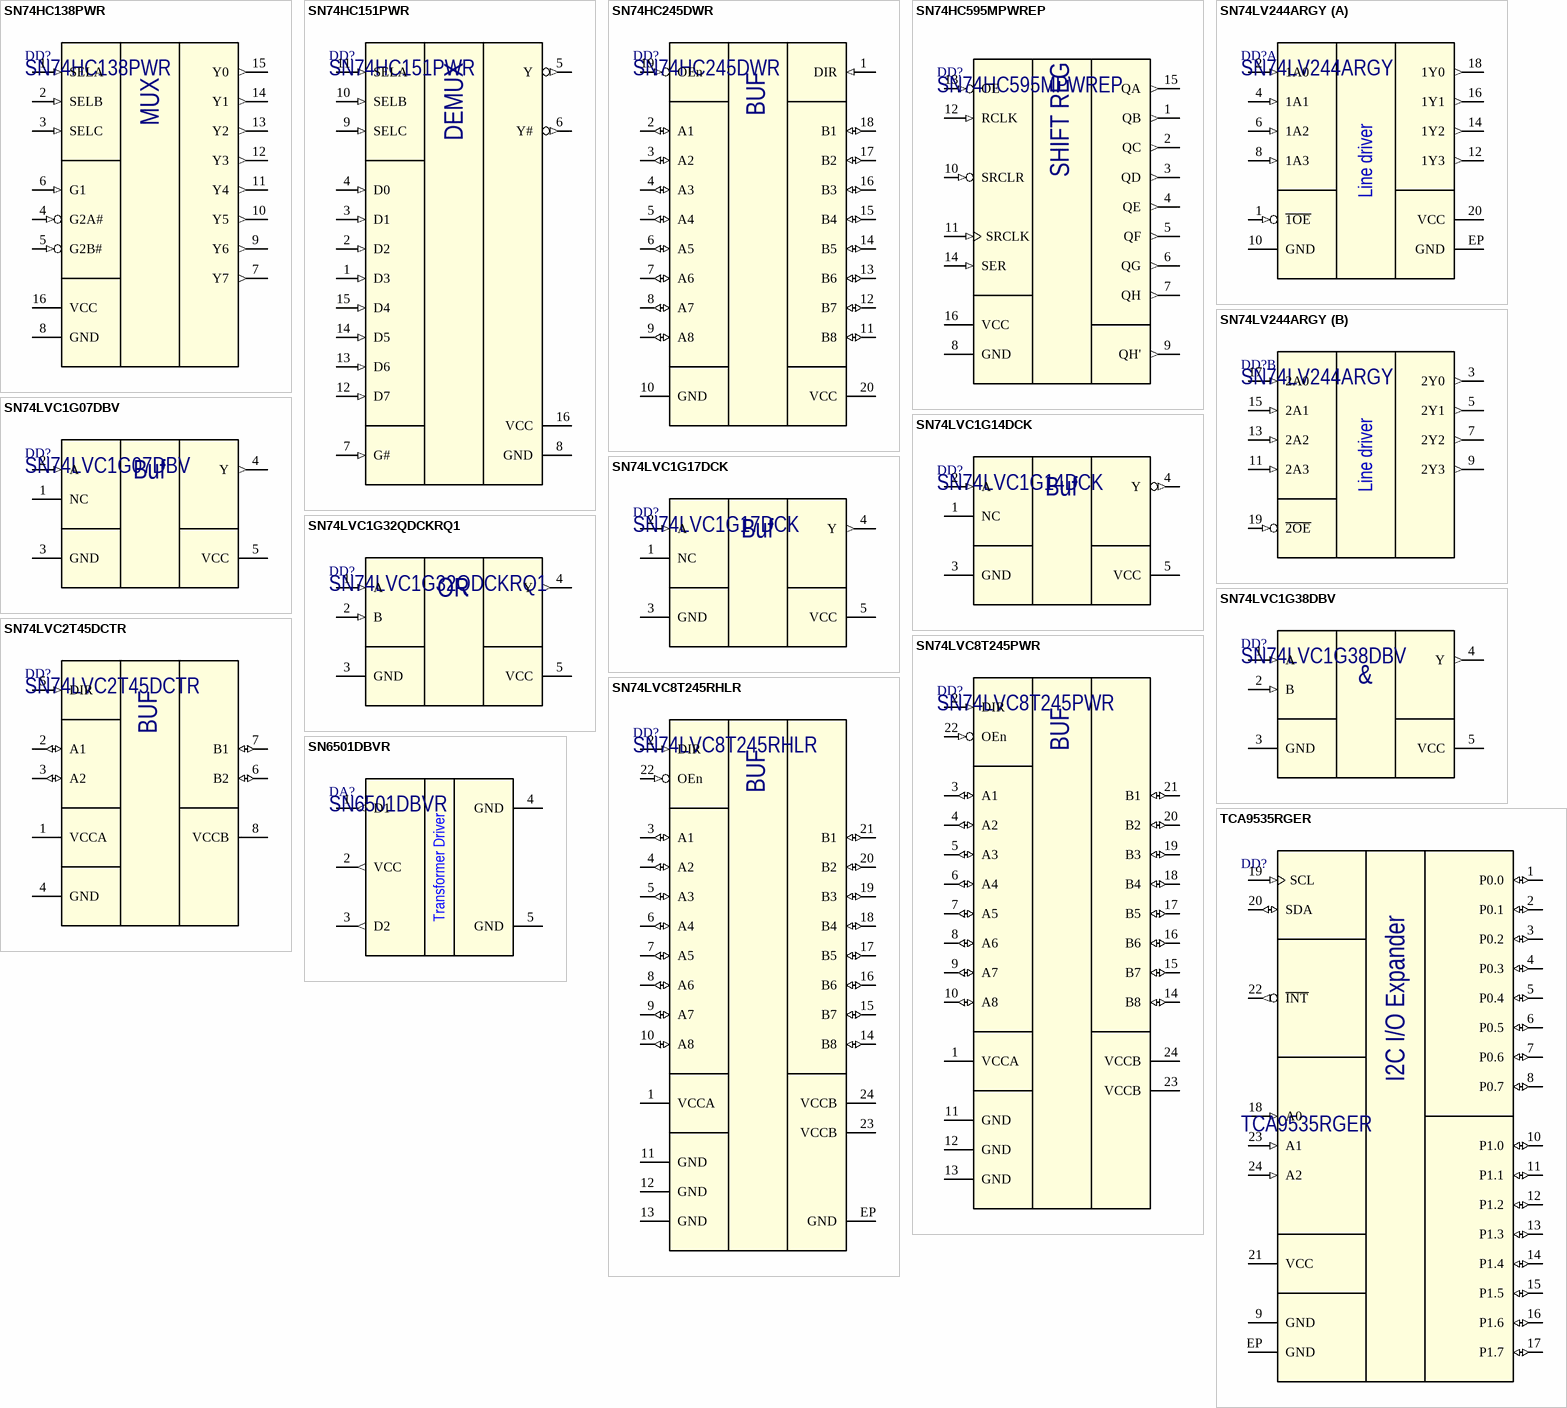
[diagram p16: symbols SN74HC138PWR to TCA9535RGER]

## SN74HC138PWR
designator DD?
8-BIT Multiplexer; Manufacturer: Texas Instruments; Part Number: SN74HC138PWR; Package: TSSOP-16
footprint TSSOP-16 (TSOP, 20-Leads, Body 6.50x4.40mm, Pitch 0.65mm, IPC Medium Density)
pins: 1 SELA (in), 2 SELB (in), 3 SELC (in), 4 G2A# (in), 5 G2B# (in), 6 G1 (in), 7 Y7 (out), 8 GND (power), 9 Y6 (out), 10 Y5 (out), 11 Y4 (out), 12 Y3 (out), 13 Y2 (out), 14 Y1 (out), 15 Y0 (out), 16 VCC (power)
text: MUX

## SN74HC151PWR
designator DD?
8-LINE TO 1-LINE DATA SELECTORS; Manufacturer: Texas Instruments; Part Number: SN74HC151PWR; Package: TSSOP-16
footprint TSSOP-16 (TSOP, 20-Leads, Body 6.50x4.40mm, Pitch 0.65mm, IPC Medium Density)
pins: 1 D3 (in), 2 D2 (in), 3 D1 (in), 4 D0 (in), 5 Y (out), 6 Y# (out), 7 G# (in), 8 GND (power), 9 SELC (in), 10 SELB (in), 11 SELA (in), 12 D7 (in), 13 D6 (in), 14 D5 (in), 15 D4 (in), 16 VCC (power)
text: DEMUX

## SN74HC245DWR
designator DD?
8-bit Bus Transceiver; Manufacturer: Texas Instruments; Part Number: SN74HC245DWR; Package: SO-20
footprint SOIC-20N (SOIC, 20-Leads, Body 12.80x7.50mm, Pitch 1.27mm, IPC Medium Density)
pins: 1 DIR (in), 2 A1 (io), 3 A2 (io), 4 A3 (io), 5 A4 (io), 6 A5 (io), 7 A6 (io), 8 A7 (io), 9 A8 (io), 10 GND (power), 11 B8 (io), 12 B7 (io), 13 B6 (io), 14 B5 (io), 15 B4 (io), 16 B3 (io), 17 B2 (io), 18 B1 (io), 19 OEn (in), 20 VCC (power)
text: BUF

## SN74HC595MPWREP
designator DD?
8-BIT SHIFT REGISTERS WITH 3-STATE OUTPUT REGISTERS; Manufacturer: Texas Instruments; Part Number: SN74HC595MPWREP; Package: TSSOP-16
footprint TSSOP-16 (TSOP, 20-Leads, Body 6.50x4.40mm, Pitch 0.65mm, IPC Medium Density)
pins: 1 QB (out), 2 QC (out), 3 QD (out), 4 QE (out), 5 QF (out), 6 QG (out), 7 QH (out), 8 GND (power), 9 QH' (out), 10 SRCLR (in), 11 SRCLK (in), 12 RCLK (in), 13 OE (in), 14 SER (in), 15 QA (out), 16 VCC (power)
text: SHIFT REG

## SN74LV244ARGY
designator DD?
Line driver 8 bits; Manufacturer: Texas Instruments; Package: VQFN-20; Part Number: SN74LV244ARGY
footprint VQFN-20(4.5x3.5) (VQFN-20 package 4.5x3.5mm with 0.5mm pitch)
part A pins: 1 ~{1OE} (in), 2 1A0 (in), 4 1A1 (in), 6 1A2 (in), 8 1A3 (in), 10 GND (power), 12 1Y3 (out), 14 1Y2 (out), 16 1Y1 (out), 18 1Y0 (out), 20 VCC (power), EP GND (power)
part B pins: 3 2Y0 (out), 5 2Y1 (out), 7 2Y2 (out), 9 2Y3 (out), 11 2A3 (in), 13 2A2 (in), 15 2A1 (in), 17 2A0 (in), 19 ~{2OE} (in)
part A text: Line driver
part B text: Line driver

## SN74LVC1G07DBV
designator DD?
Single Buffer/Driver With Open-Drain Output; Manufacturer: Texas Instruments; Part Number: SN74LVC1G07DBV; Package: SOT23-5
footprint SOT23-5 (SOT23, 6-Leads, Body 2.90x2.80mm, Pitch 0.95mm, IPC Medium Density)
pins: 1 NC (hiz), 2 A (in), 3 GND (power), 4 Y (out), 5 VCC (power)
text: Buf

## SN74LVC1G14DCK
designator DD?
Single Schmitt-Trigger Inverter; Manufacturer: Texas Instruments; Part Number: SN74LVC1G14DCK; Package: SC70-5
footprint SC70-5
pins: 1 NC (hiz), 2 A (in), 3 GND (power), 4 Y (out), 5 VCC (power)
text: Buf

## SN74LVC1G17DCK
designator DD?
Single Schmitt-Trigger Buffer; Manufacturer: Texas Instruments; Part Number: SN74LVC1G17DCK; Package: SC70-5
footprint SC70-5
pins: 1 NC (hiz), 2 A (in), 3 GND (power), 4 Y (out), 5 VCC (power)
text: Buf

## SN74LVC1G32QDCKRQ1
designator DD?
Single 2-Input Positive-OR Gate; Manufacturer: Texas Instruments; Part Number: SN74LVC1G32QDCKRQ1; Package: SC70-5
footprint SC70-5
pins: 1 A (in), 2 B (in), 3 GND (power), 4 Y (out), 5 VCC (power)
text: OR

## SN74LVC1G38DBV
designator DD?
Single 2-Input NAND Gate With Open-Drain Output; Manufacturer: Texas Instruments; Part Number: SN74LVC1G38DBV; Package: SOT23-5
footprint SOT23-5 (SOT23, 6-Leads, Body 2.90x2.80mm, Pitch 0.95mm, IPC Medium Density)
pins: 1 A (in), 2 B (in), 3 GND (power), 4 Y (out), 5 VCC (power)
text: &

## SN74LVC2T45DCTR
designator DD?
2-bit Dual-Supply Bus Transceiver; Manufacturer: Texas Instruments; Part Number: SN74LVC2T45DCTR; Package: SSOP-8
footprint SM8 (8-Leads, Body 2.8x2.95mm, Pitch 0.65mm, IPC Medium Density)
pins: 1 VCCA (power), 2 A1 (io), 3 A2 (io), 4 GND (power), 5 DIR (in), 6 B2 (io), 7 B1 (io), 8 VCCB (power)
text: BUF

## SN74LVC8T245PWR
designator DD?
8-bit Dual-Supply Bus Transceiver; Manufacturer: Texas Instruments; Part Number: SN74LVC8T245PWR; Package: TSSOP-24
footprint TSSOP-24 (TSOP, 24-Leads, Pitch 0.65mm, IPC Medium Density)
pins: 1 VCCA (power), 2 DIR (in), 3 A1 (io), 4 A2 (io), 5 A3 (io), 6 A4 (io), 7 A5 (io), 8 A6 (io), 9 A7 (io), 10 A8 (io), 11 GND (power), 12 GND (power), 13 GND (power), 14 B8 (io), 15 B7 (io), 16 B6 (io), 17 B5 (io), 18 B4 (io), 19 B3 (io), 20 B2 (io), 21 B1 (io), 22 OEn (in), 23 VCCB (power), 24 VCCB (power)
text: BUF

## SN74LVC8T245RHLR
designator DD?
8-bit Dual-Supply Bus Transceiver; Manufacturer: Texas Instruments; Part Number: SN74LVC8T245RHLR; Package: VQFN-24
footprint VQFN-24 (VQFN-24 package 5.5x3.5mm with 0.5mm pitch)
pins: 1 VCCA (power), 2 DIR (in), 3 A1 (io), 4 A2 (io), 5 A3 (io), 6 A4 (io), 7 A5 (io), 8 A6 (io), 9 A7 (io), 10 A8 (io), 11 GND (power), 12 GND (power), 13 GND (power), 14 B8 (io), 15 B7 (io), 16 B6 (io), 17 B5 (io), 18 B4 (io), 19 B3 (io), 20 B2 (io), 21 B1 (io), 22 OEn (in), 23 VCCB (power), 24 VCCB (power), EP GND (power)
text: BUF

## SN6501DBVR
designator DA?
Transformer Driver for Isolated Power Supplies; Manufacturer: Texas Instruments; Part Number: SN6501DBVR; Package: SOT23-5
footprint SOT23-5 (SOT23, 6-Leads, Body 2.90x2.80mm, Pitch 0.95mm, IPC Medium Density)
pins: 1 D1 (out), 2 VCC (out), 3 D2 (out), 4 GND (power), 5 GND (power)
text: Transformer Driver

## TCA9535RGER
designator DD?
Low-Voltage 16-Bit I2C and SMBus I/O / Expander with Interrupt Output and Configuration Registers; Manufacturer: Texas Instruments; Part Number: TCA9535RGER; Package: VQFN-24
footprint QFN24_RGE0024B (QFN, 24-Leads, Body 4.00x4.00mm, Pitch 0.50mm, Thermal Pad 2.50x2.50mm, IPC Medium Density)
pins: 1 P0.0 (io), 2 P0.1 (io), 3 P0.2 (io), 4 P0.3 (io), 5 P0.4 (io), 6 P0.5 (io), 7 P0.6 (io), 8 P0.7 (io), 9 GND (power), 10 P1.0 (io), 11 P1.1 (io), 12 P1.2 (io), 13 P1.3 (io), 14 P1.4 (io), 15 P1.5 (io), 16 P1.6 (io), 17 P1.7 (io), 18 A0 (in), 19 SCL (in), 20 SDA (io), 21 VCC (power), 22 ~{INT} (out), 23 A1 (in), 24 A2 (in), EP GND (power)
text: I2C I/O Expander

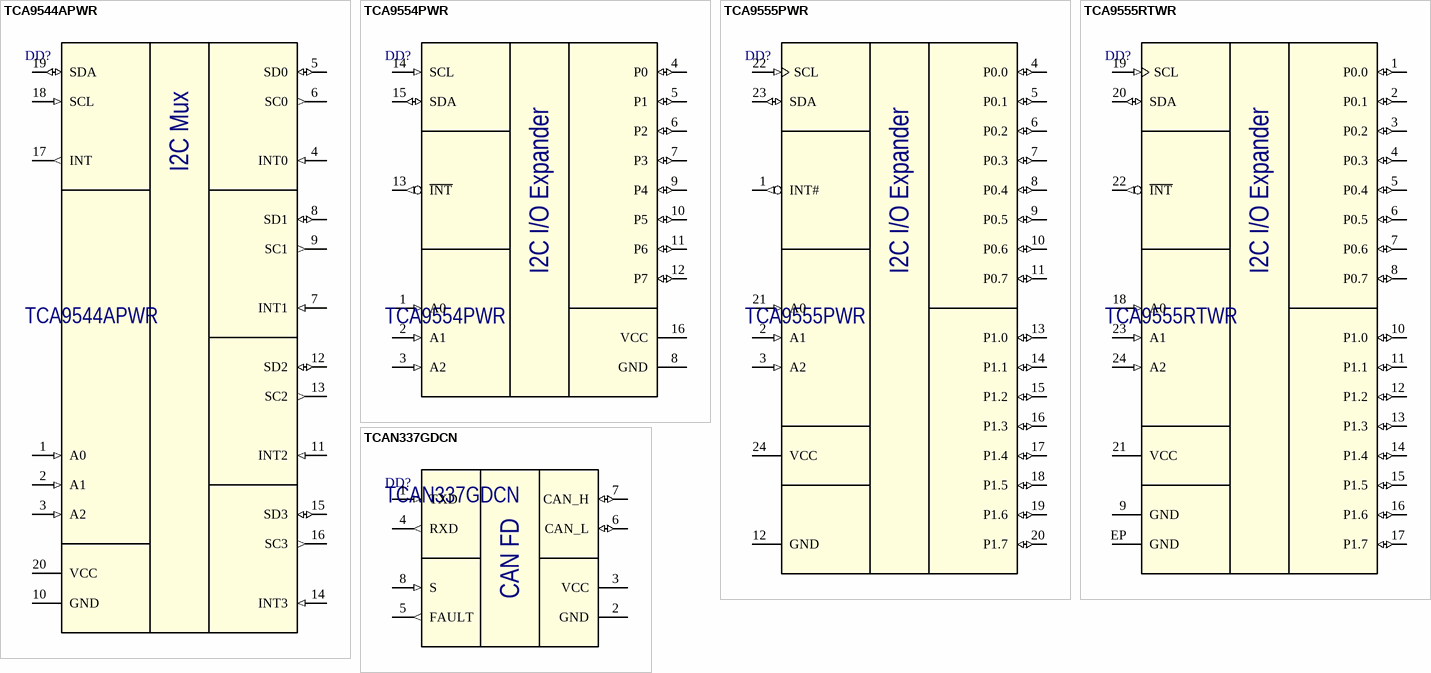
[diagram p17: symbols TCA9544APWR to TCAN337GDCN]

## TCA9544APWR
designator DD?
Low Voltage 4-Channel I2C and SMBus Multiplexer With Interrupt Logic; Manufacturer: Texas Instruments; Part Number: TCA9544APWR; Package: TSSOP-20
footprint TSSOP-20 (TSOP, 20-Leads, Body 6.50x4.40mm, Pitch 0.65mm, IPC Medium Density)
pins: 1 A0 (in), 2 A1 (in), 3 A2 (in), 4 INT0 (in), 5 SD0 (io), 6 SC0 (out), 7 INT1 (in), 8 SD1 (io), 9 SC1 (out), 10 GND (power), 11 INT2 (in), 12 SD2 (io), 13 SC2 (out), 14 INT3 (in), 15 SD3 (io), 16 SC3 (out), 17 INT (out), 18 SCL (in), 19 SDA (io), 20 VCC (power)
text: I2C Mux

## TCA9554PWR
designator DD?
8-Bit I2C and SMBus Low-Power I/O Expander With Interrupt Output and Configuration Registers; Manufacturer: Texas Instruments; Part Number: TCA9554PWR; Package: TSSOP-20
footprint TSSOP-16 (TSOP, 20-Leads, Body 6.50x4.40mm, Pitch 0.65mm, IPC Medium Density)
pins: 1 A0 (in), 2 A1 (in), 3 A2 (in), 4 P0 (io), 5 P1 (io), 6 P2 (io), 7 P3 (io), 8 GND (power), 9 P4 (io), 10 P5 (io), 11 P6 (io), 12 P7 (io), 13 ~{INT} (out), 14 SCL (in), 15 SDA (io), 16 VCC (power)
text: I2C I/O Expander

## TCA9555PWR
designator DD?
Low-Voltage 16-Bit I2C and SMBus I/O / Expander with Interrupt Output and Configuration Registers; Manufacturer: Texas Instruments; Part Number: TCA9555PWR; Package: TSSOP-24
footprint TSSOP-24 (TSOP, 24-Leads, Pitch 0.65mm, IPC Medium Density)
pins: 1 INT# (out), 2 A1 (in), 3 A2 (in), 4 P0.0 (io), 5 P0.1 (io), 6 P0.2 (io), 7 P0.3 (io), 8 P0.4 (io), 9 P0.5 (io), 10 P0.6 (io), 11 P0.7 (io), 12 GND (power), 13 P1.0 (io), 14 P1.1 (io), 15 P1.2 (io), 16 P1.3 (io), 17 P1.4 (io), 18 P1.5 (io), 19 P1.6 (io), 20 P1.7 (io), 21 A0 (in), 22 SCL (in), 23 SDA (io), 24 VCC (power)
text: I2C I/O Expander

## TCA9555RTWR
designator DD?
Low-Voltage 16-Bit I2C and SMBus I/O / Expander with Interrupt Output and Configuration Registers; Manufacturer: Texas Instruments; Part Number: TCA9555RTWR; Package: WQFN-24
footprint QFN24 (QFN, 24-Leads, Body 4.00x4.00mm, Pitch 0.50mm, Thermal Pad 2.50x2.50mm, IPC Medium Density)
pins: 1 P0.0 (io), 2 P0.1 (io), 3 P0.2 (io), 4 P0.3 (io), 5 P0.4 (io), 6 P0.5 (io), 7 P0.6 (io), 8 P0.7 (io), 9 GND (power), 10 P1.0 (io), 11 P1.1 (io), 12 P1.2 (io), 13 P1.3 (io), 14 P1.4 (io), 15 P1.5 (io), 16 P1.6 (io), 17 P1.7 (io), 18 A0 (in), 19 SCL (in), 20 SDA (io), 21 VCC (power), 22 ~{INT} (out), 23 A1 (in), 24 A2 (in), EP GND (power)
text: I2C I/O Expander

## TCAN337GDCN
designator DD?
Single Schmitt-Trigger Buffer; Manufacturer: Texas Instruments; Part Number: TCAN337GDCN; Package: SC70-5
footprint SOT23-8 (SOT23-8, 8-Leads, Body 2,90x1,63mm, Pitch 0,65mm, IPC Medium Density)
pins: 1 TXD (in), 2 GND (power), 3 VCC (power), 4 RXD (out), 5 FAULT (out), 6 CAN_L (io), 7 CAN_H (io), 8 S (in)
text: CAN FD

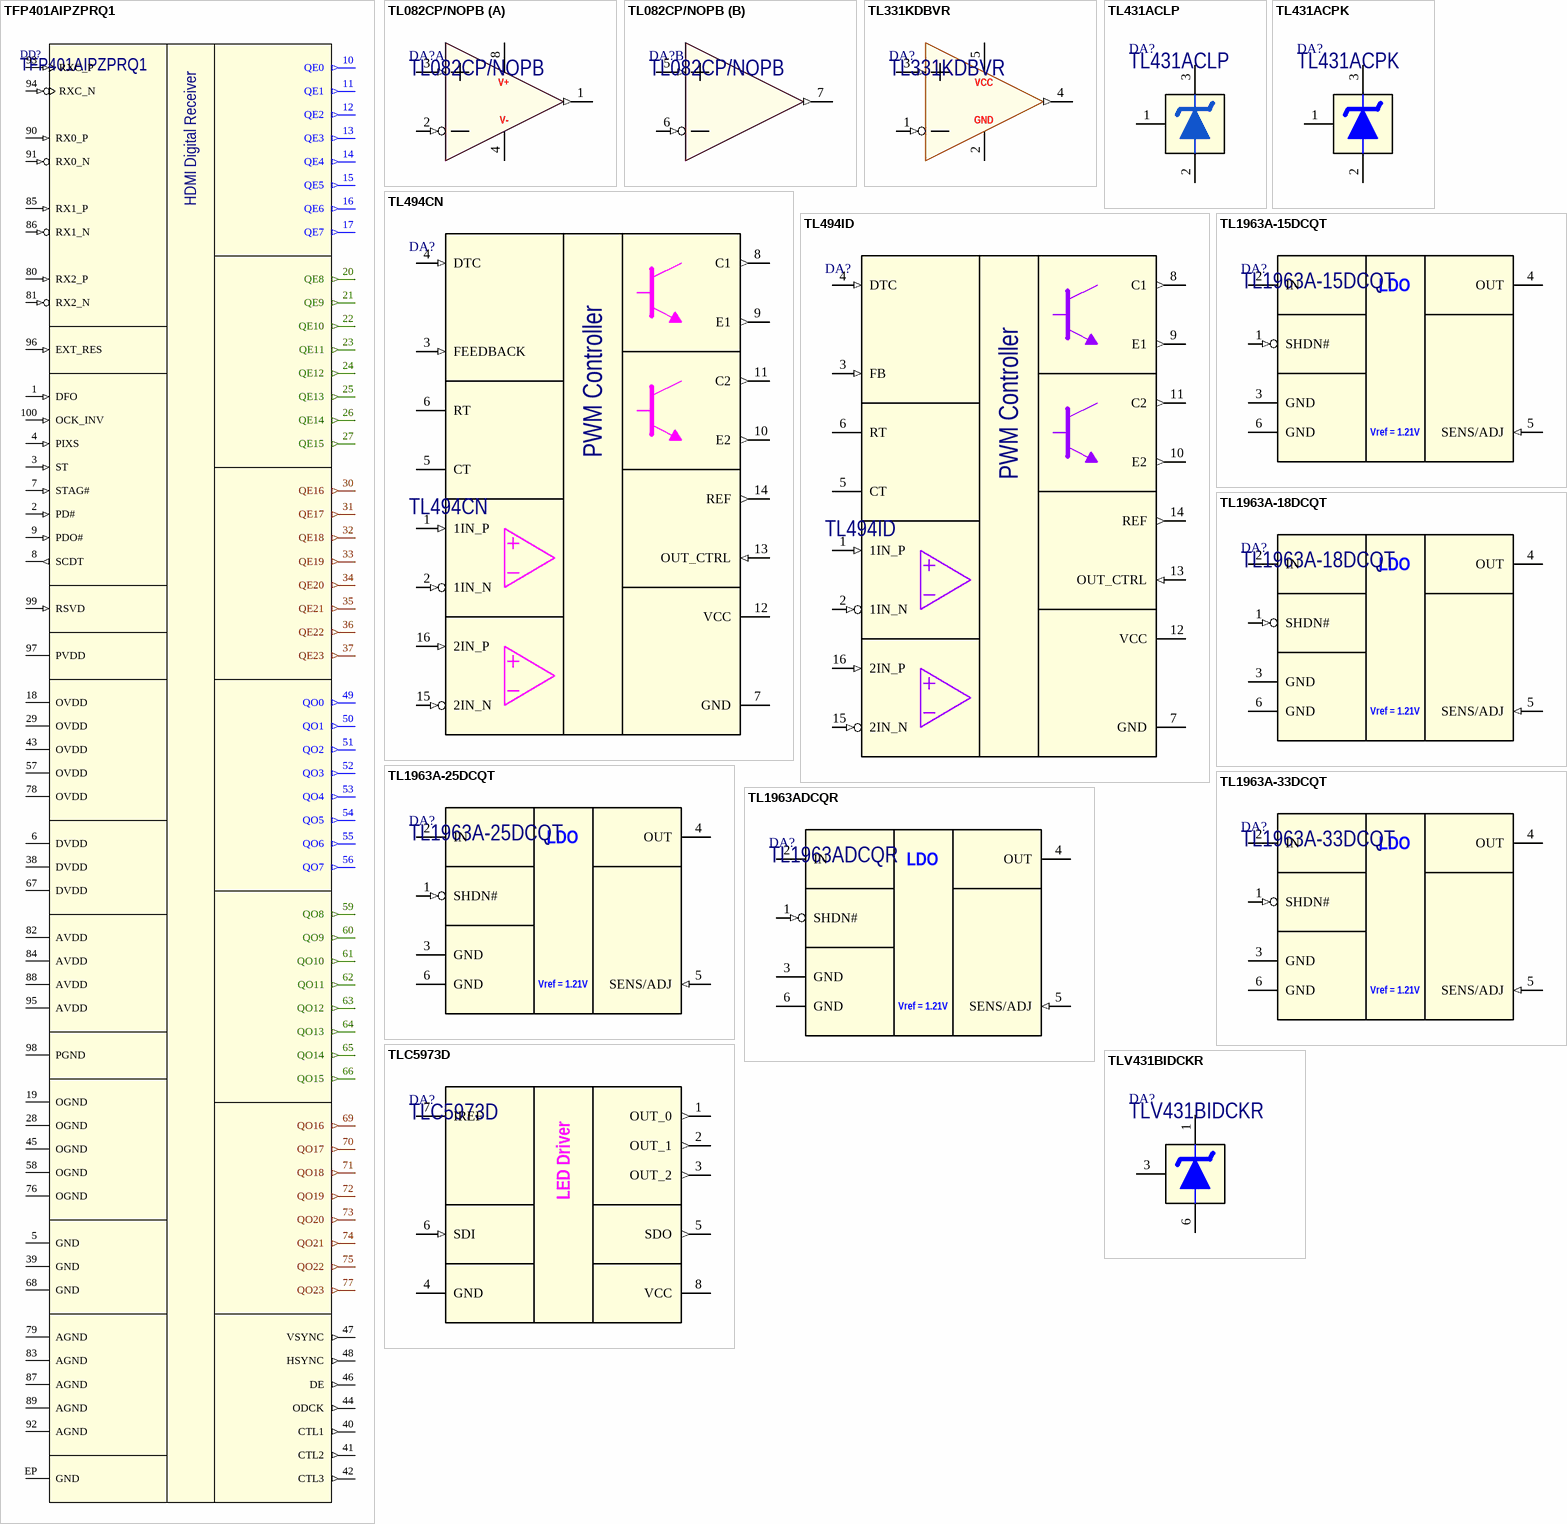
[diagram p18: symbols TFP401AIPZPRQ1 to TLV431BIDCKR]

## TFP401AIPZPRQ1
designator DD?
HDMI Digital Receiver; Manufacturer: Texas Instruments; Part Number: TFP401AIPZPRQ1; Package: QFN-24
footprint PQFP-100 (PQFP, 100-Leads, Body 14,00x14,00mm, Pitch 0,50mm, IPC Medium Density)
pins: 1 DFO (in), 2 PD# (in), 3 ST (in), 4 PIXS (in), 5 GND (power), 6 DVDD (power), 7 STAG# (in), 8 SCDT (out), 9 PDO# (in), 10 QE0 (out), 11 QE1 (out), 12 QE2 (out), 13 QE3 (out), 14 QE4 (out), 15 QE5 (out), 16 QE6 (out), 17 QE7 (out), 18 OVDD (power), 19 OGND (power), 20 QE8 (out), 21 QE9 (out), 22 QE10 (out), 23 QE11 (out), 24 QE12 (out), 25 QE13 (out), 26 QE14 (out), 27 QE15 (out), 28 OGND (power), 29 OVDD (power), 30 QE16 (out), 31 QE17 (out), 32 QE18 (out), 33 QE19 (out), 34 QE20 (out), 35 QE21 (out), 36 QE22 (out), 37 QE23 (out), 38 DVDD (power), 39 GND (power), 40 CTL1 (out), 41 CTL2 (out), 42 CTL3 (out), 43 OVDD (power), 44 ODCK (out), 45 OGND (power), 46 DE (out), 47 VSYNC (out), 48 HSYNC (out), 49 QO0 (out), 50 QO1 (out), 51 QO2 (out), 52 QO3 (out), 53 QO4 (out), 54 QO5 (out), 55 QO6 (out), 56 QO7 (out), 57 OVDD (power), 58 OGND (power), 59 QO8 (out), 60 QO9 (out), 61 QO10 (out), 62 QO11 (out), 63 QO12 (out), 64 QO13 (out), 65 QO14 (out), 66 QO15 (out), 67 DVDD (power), 68 GND (power), 69 QO16 (out), 70 QO17 (out), 71 QO18 (out), 72 QO19 (out), 73 QO20 (out), 74 QO21 (out), 75 QO22 (out), 76 OGND (power), 77 QO23 (out), 78 OVDD (power), 79 AGND (power), 80 RX2_P (in), 81 RX2_N (in), 82 AVDD (power), 83 AGND (power), 84 AVDD (power), 85 RX1_P (in), 86 RX1_N (in), 87 AGND (power), 88 AVDD (power), 89 AGND (power), 90 RX0_P (in), 91 RX0_N (in), 92 AGND (power), 93 RXC_P (in), 94 RXC_N (in), 95 AVDD (power), 96 EXT_RES (in), 97 PVDD (power), 98 PGND (power), 99 RSVD (in), 100 OCK_INV (in), EP GND (power)

## TL082CP/NOPB
designator DA?
Wide Bandwidth Dual JFET Input Operational Amplifier; Manufacturer: Texas Instruments; Part Number: TL082CP/NOPB; Package: DIP-8
footprint DIP-8P-M01 (Plastic DIP, 8 pin, lead pitch 2.54mm (0.1"), row spacing 7.62mm (0.3").)
footprint DIP-8P-M01_with_SO8 (Plastic DIP, 8 pin, lead pitch 2.54mm (0.1"), row spacing 7.62mm (0.3").)
part A pins: 1 1OUT (out), 2 1IN- (in), 3 1IN+ (in), 4 V- (power), 8 V+ (power)
part B pins: 5 2IN+ (in), 6 2IN- (in), 7 2OUT (out)

## TL331KDBVR
designator DA?
Single Comparator; Manufacturer: Texas Instruments; Part Number: TL331KDBVR; Package: SOT23-5
footprint SOT23-5 (SOT23, 6-Leads, Body 2.90x2.80mm, Pitch 0.95mm, IPC Medium Density)
pins: 1 1IN- (in), 2 GND (power), 3 1IN+ (in), 4 1OUT (out), 5 VCC (power)

## TL431ACLP
designator DA?
Precision Programmable Reference; Manufacturer: Texas Instruments; Part Number: TL431ACLP; Package: TO-92
footprint TO-92 (VERTICAL,LINE)
footprint TO-92 (VERTICAL,TRIANGLE)
pins: 1 REF, 2 ANODE, 3 CATHODE

## TL431ACPK
designator DA?
Precision Programmable Reference; Manufacturer: Texas Instruments; Part Number: TL431ACPK; Package: SOT-89
footprint SOT89-3 (SOT89, 3-Leads, Body 4.50x2.45mm, Pitch 1.50mm, Lead Span 4.1mm, IPC Medium Density)
pins: 1 REF (power), 2 ANODE (power), 3 CATHODE (power)

## TL494CN
designator DA?
Pulse-Width-Modulation Control Circuits; Manufacturer: Texas Instruments; Part Number: TL494CN; Package: DIP-16
footprint DIP-16P-M03 (Plastic DIP, 16 pin, lead pitch 2.54mm (0.1"), row spacing 7.62mm (0.3"))
pins: 1 1IN_P (in), 2 1IN_N (in), 3 FEEDBACK (in), 4 DTC (in), 5 CT, 6 RT, 7 GND (power), 8 C1 (out), 9 E1 (out), 10 E2 (out), 11 C2 (out), 12 VCC (power), 13 OUT_CTRL (in), 14 REF (out), 15 2IN_N (in), 16 2IN_P (in)
text: PWM Controller

## TL494ID
designator DA?
Pulse-Width-Modulation Control Circuits; Manufacturer: Texas Instruments; Part Number: TL494ID; Package: SOIC-16
footprint SOIC-16 (package SOIC-16, 150 mil)
pins: 1 1IN_P (in), 2 1IN_N (in), 3 FB (in), 4 DTC (in), 5 CT, 6 RT, 7 GND (power), 8 C1 (out), 9 E1 (out), 10 E2 (out), 11 C2 (out), 12 VCC (power), 13 OUT_CTRL (in), 14 REF (out), 15 2IN_N (in), 16 2IN_P (in)
text: PWM Controller

## TL1963A-15DCQT
designator DA?
1.5-A Low-Noise Fast-Transient-Response Low-Dropout Regulator; Manufacturer: Texas Instruments; Part Number: TL1963A-15DCQT; Package: SOT223-6
footprint SOT223-6 (SOT223, 6-Leads, Body 6.50x7.00mm (avg), Pitch 1.27mm, IPC Medium Density)
pins: 1 SHDN# (in), 2 IN (power), 3 GND (power), 4 OUT (power), 5 SENS/ADJ (in), 6 GND (power)
text: LDO; Vref = 1.21V

## TL1963A-18DCQT
designator DA?
1.5-A Low-Noise Fast-Transient-Response Low-Dropout Regulator; Manufacturer: Texas Instruments; Part Number: TL1963A-18DCQT; Package: SOT223-6
footprint SOT223-6 (SOT223, 6-Leads, Body 6.50x7.00mm (avg), Pitch 1.27mm, IPC Medium Density)
pins: 1 SHDN# (in), 2 IN (power), 3 GND (power), 4 OUT (power), 5 SENS/ADJ (in), 6 GND (power)
text: LDO; Vref = 1.21V

## TL1963A-25DCQT
designator DA?
1.5-A Low-Noise Fast-Transient-Response Low-Dropout Regulator; Manufacturer: Texas Instruments; Part Number: TL1963A-25DCQT; Package: SOT223-6
footprint SOT223-6 (SOT223, 6-Leads, Body 6.50x7.00mm (avg), Pitch 1.27mm, IPC Medium Density)
pins: 1 SHDN# (in), 2 IN (power), 3 GND (power), 4 OUT (power), 5 SENS/ADJ (in), 6 GND (power)
text: LDO; Vref = 1.21V

## TL1963A-33DCQT
designator DA?
1.5-A Low-Noise Fast-Transient-Response Low-Dropout Regulator; Manufacturer: Texas Instruments; Part Number: TL1963A-33DCQT; Package: SOT223-6
footprint SOT223-6 (SOT223, 6-Leads, Body 6.50x7.00mm (avg), Pitch 1.27mm, IPC Medium Density)
pins: 1 SHDN# (in), 2 IN (power), 3 GND (power), 4 OUT (power), 5 SENS/ADJ (in), 6 GND (power)
text: LDO; Vref = 1.21V

## TL1963ADCQR
designator DA?
1.5-A Low-Noise Fast-Transient-Response Low-Dropout Regulator; Manufacturer: Texas Instruments; Part Number: TL1963ADCQR; Package: SOT223-6
footprint SOT223-6 (SOT223, 6-Leads, Body 6.50x7.00mm (avg), Pitch 1.27mm, IPC Medium Density)
pins: 1 SHDN# (in), 2 IN (power), 3 GND (power), 4 OUT (power), 5 SENS/ADJ (in), 6 GND (power)
text: LDO; Vref = 1.21V

## TLC5973D
designator DA?
3-Channel, 12-Bit, PWM Constant-Current LED Driver; Manufacturer: Texas Instruments; Part Number: TLC5973D; Package: SOIC-8
footprint SOIC-8 (SOIC-8 package)
pins: 1 OUT_0 (out), 2 OUT_1 (out), 3 OUT_2 (out), 4 GND (power), 5 SDO (out), 6 SDI (in), 7 IREF, 8 VCC (power)
text: LED Driver

## TLV431BIDCKR
designator DA?
Low-Voltage Adjustable Precision Shunt Regulator; Manufacturer: Texas Instruments; Part Number: TLV431BIDCKR; Package: SC70-6
footprint SC70-6
pins: 1 CATHODE (power), 3 REF (power), 6 ANODE (power)

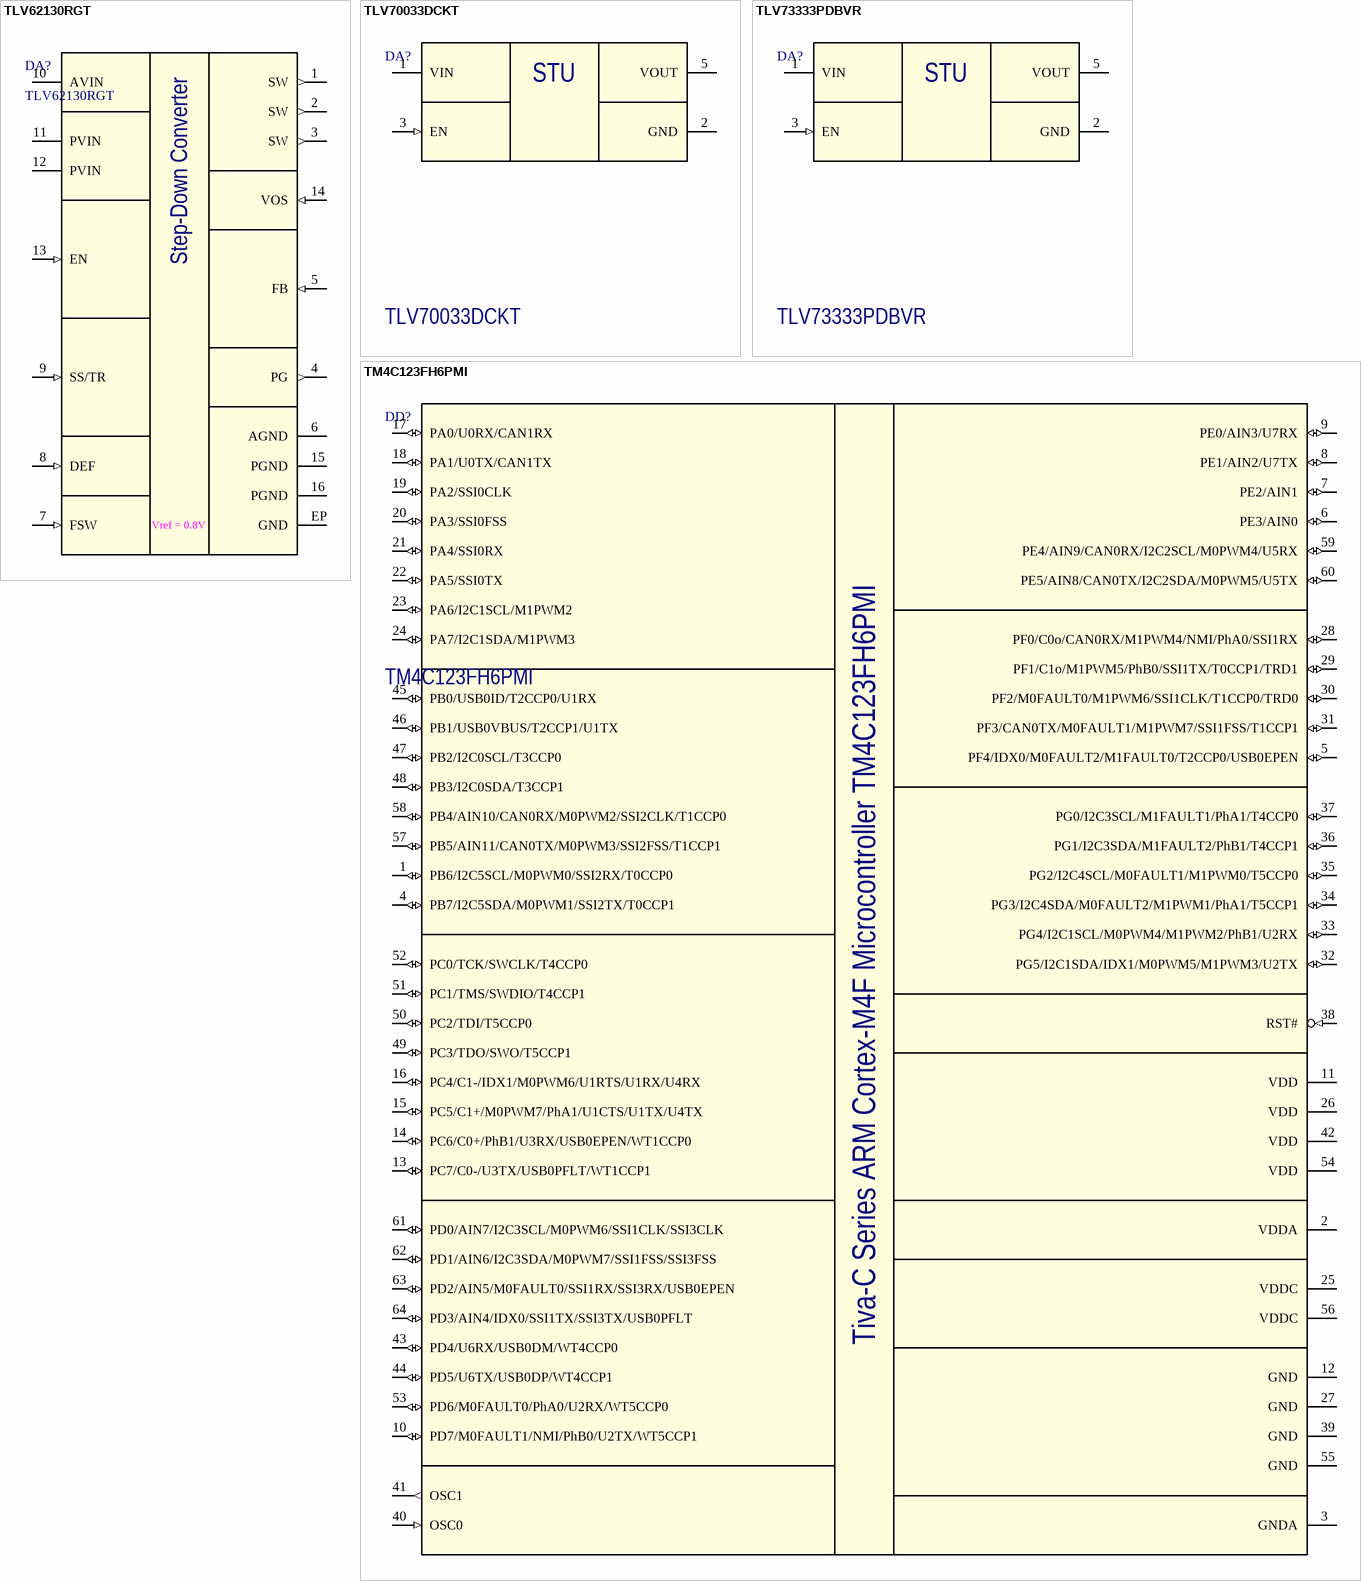
[diagram p19: symbols TLV62130RGT to TM4C123FH6PMI]

## TLV62130RGT
designator DA?
3-V to 17-V 3-A Step-Down Converter; Manufacturer: Texas Instruments; Part Number: TLV62130RGT; Package: QFN-16
footprint QFN16_RGT0016C
pins: 1 SW (out), 2 SW (out), 3 SW (out), 4 PG (out), 5 FB (in), 6 AGND (power), 7 FSW (in), 8 DEF (in), 9 SS/TR (in), 10 AVIN (power), 11 PVIN (power), 12 PVIN (power), 13 EN (in), 14 VOS (in), 15 PGND (power), 16 PGND (power), EP GND (power)
text: Step-Down Converter; Vref = 0.8V

## TLV70033DCKT
designator DA?
200-mA, Low-IQ, Low-Dropout Regulator for Portable Devices; Manufacturer: Texas Instruments; Part Number: TLV70033DCKT; Package: SC70-5
footprint SC70-5
pins: 1 VIN (power), 2 GND (power), 3 EN (in), 5 VOUT (power)
text: STU

## TLV73333PDBVR
designator DA?
Capacitor-Free, 300-mA, Low-Dropout Regulator; Manufacturer: Texas Instruments; Part Number: TLV73333PDBVR; Package: SOT23-5
footprint SOT23-5 (SOT23, 6-Leads, Body 2.90x2.80mm, Pitch 0.95mm, IPC Medium Density)
pins: 1 VIN (power), 2 GND (power), 3 EN (in), 5 VOUT (power)
text: STU

## TM4C123FH6PMI
designator DD?
ARM Cortex-M4F MCU 80MHz clock rate with 256KB Flash, 32KB RAM, 2KB EEPROM; Manufacturer: Texas Instruments; Part Number: TM4C123FH6PMI; Package: LQFP-64
footprint LQFP-64 (LQFP-64 package with 0.5mm pitch)
pins: 1 PB6/I2C5SCL/M0PWM0/SSI2RX/T0CCP0 (io), 2 VDDA (power), 3 GNDA (power), 4 PB7/I2C5SDA/M0PWM1/SSI2TX/T0CCP1 (io), 5 PF4/IDX0/M0FAULT2/M1FAULT0/T2CCP0/USB0EPEN (io), 6 PE3/AIN0 (io), 7 PE2/AIN1 (io), 8 PE1/AIN2/U7TX (io), 9 PE0/AIN3/U7RX (io), 10 PD7/M0FAULT1/NMI/PhB0/U2TX/WT5CCP1 (io), 11 VDD (power), 12 GND (power), 13 PC7/C0-/U3TX/USB0PFLT/WT1CCP1 (io), 14 PC6/C0+/PhB1/U3RX/USB0EPEN/WT1CCP0 (io), 15 PC5/C1+/M0PWM7/PhA1/U1CTS/U1TX/U4TX (io), 16 PC4/C1-/IDX1/M0PWM6/U1RTS/U1RX/U4RX (io), 17 PA0/U0RX/CAN1RX (io), 18 PA1/U0TX/CAN1TX (io), 19 PA2/SSI0CLK (io), 20 PA3/SSI0FSS (io), 21 PA4/SSI0RX (io), 22 PA5/SSI0TX (io), 23 PA6/I2C1SCL/M1PWM2 (io), 24 PA7/I2C1SDA/M1PWM3 (io), 25 VDDC (power), 26 VDD (power), 27 GND (power), 28 PF0/C0o/CAN0RX/M1PWM4/NMI/PhA0/SSI1RX (io), 29 PF1/C1o/M1PWM5/PhB0/SSI1TX/T0CCP1/TRD1 (io), 30 PF2/M0FAULT0/M1PWM6/SSI1CLK/T1CCP0/TRD0 (io), 31 PF3/CAN0TX/M0FAULT1/M1PWM7/SSI1FSS/T1CCP1 (io), 32 PG5/I2C1SDA/IDX1/M0PWM5/M1PWM3/U2TX (io), 33 PG4/I2C1SCL/M0PWM4/M1PWM2/PhB1/U2RX (io), 34 PG3/I2C4SDA/M0FAULT2/M1PWM1/PhA1/T5CCP1 (io), 35 PG2/I2C4SCL/M0FAULT1/M1PWM0/T5CCP0 (io), 36 PG1/I2C3SDA/M1FAULT2/PhB1/T4CCP1 (io), 37 PG0/I2C3SCL/M1FAULT1/PhA1/T4CCP0 (io), 38 RST# (in), 39 GND (power), 40 OSC0 (in), 41 OSC1 (out), 42 VDD (power), 43 PD4/U6RX/USB0DM/WT4CCP0 (io), 44 PD5/U6TX/USB0DP/WT4CCP1 (io), 45 PB0/USB0ID/T2CCP0/U1RX (io), 46 PB1/USB0VBUS/T2CCP1/U1TX (io), 47 PB2/I2C0SCL/T3CCP0 (io), 48 PB3/I2C0SDA/T3CCP1 (io), 49 PC3/TDO/SWO/T5CCP1 (io), 50 PC2/TDI/T5CCP0 (io), 51 PC1/TMS/SWDIO/T4CCP1 (io), 52 PC0/TCK/SWCLK/T4CCP0 (io), 53 PD6/M0FAULT0/PhA0/U2RX/WT5CCP0 (io), 54 VDD (power), 55 GND (power), 56 VDDC (power), 57 PB5/AIN11/CAN0TX/M0PWM3/SSI2FSS/T1CCP1 (io), 58 PB4/AIN10/CAN0RX/M0PWM2/SSI2CLK/T1CCP0 (io), 59 PE4/AIN9/CAN0RX/I2C2SCL/M0PWM4/U5RX (io), 60 PE5/AIN8/CAN0TX/I2C2SDA/M0PWM5/U5TX (io), 61 PD0/AIN7/I2C3SCL/M0PWM6/SSI1CLK/SSI3CLK (io), 62 PD1/AIN6/I2C3SDA/M0PWM7/SSI1FSS/SSI3FSS (io), 63 PD2/AIN5/M0FAULT0/SSI1RX/SSI3RX/USB0EPEN (io), 64 PD3/AIN4/IDX0/SSI1TX/SSI3TX/USB0PFLT (io)
text: Tiva-C Series ARM Cortex-M4F Microcontroller TM4C123FH6PMI

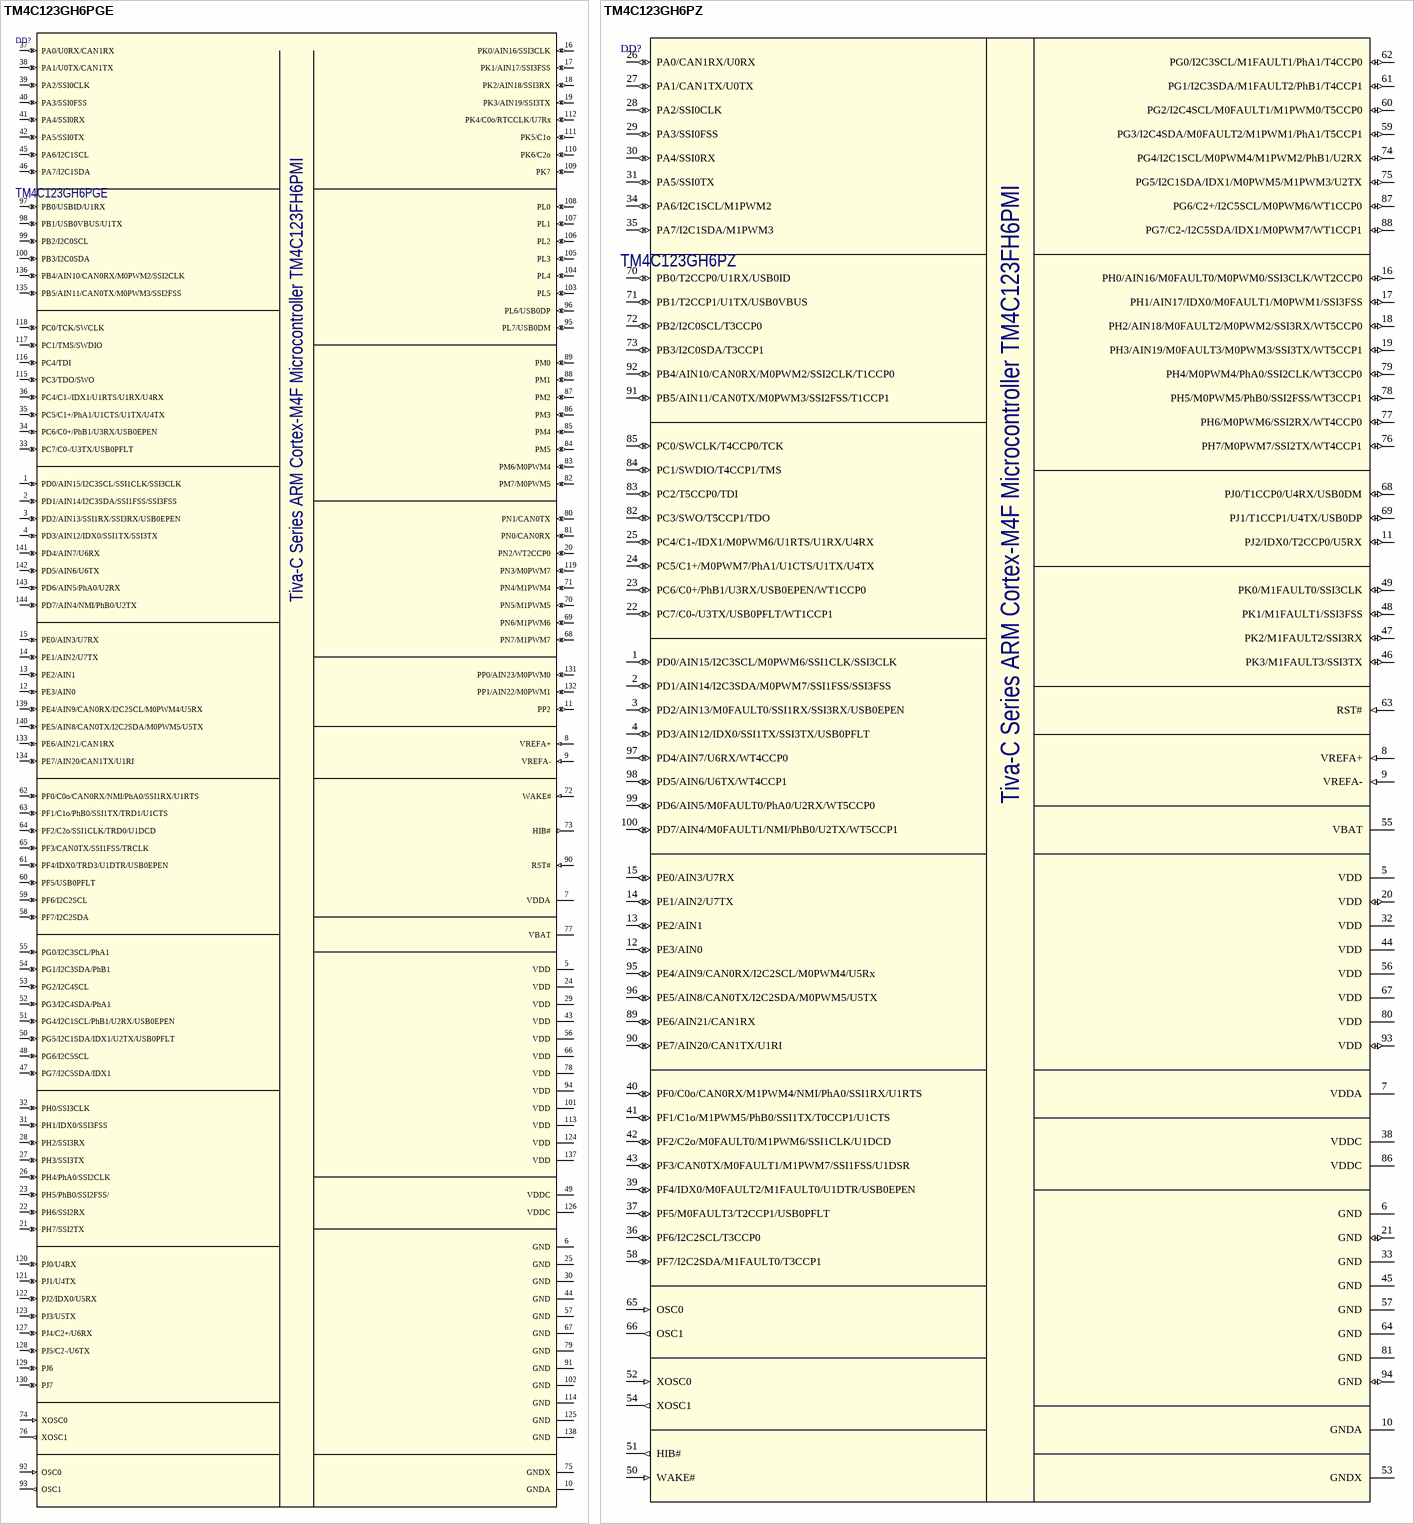
[diagram p20: symbols TM4C123GH6PGE to TM4C123GH6PZ]

## TM4C123GH6PGE
designator DD?
ARM Cortex-M4F MCU 80MHz clock rate with 256KB Flash, 32KB RAM, 2KB EEPROM; Manufacturer: Texas Instruments; Part Number: TM4C123GH6PGE; Package: LQFP-144
footprint LQFP-144 (TSQFP, 144-Leads, Body 20,00x20,00mm, Pitch 0,50mm, IPC Medium Density)
pins: 1 PD0/AIN15/I2C3SCL/SSI1CLK/SSI3CLK (io), 2 PD1/AIN14/I2C3SDA/SSI1FSS/SSI3FSS (io), 3 PD2/AIN13/SSI1RX/SSI3RX/USB0EPEN (io), 4 PD3/AIN12/IDX0/SSI1TX/SSI3TX (io), 5 VDD (power), 6 GND (power), 7 VDDA (power), 8 VREFA+ (in), 9 VREFA- (in), 10 GNDA (power), 11 PP2 (io), 12 PE3/AIN0 (io), 13 PE2/AIN1 (io), 14 PE1/AIN2/U7TX (io), 15 PE0/AIN3/U7RX (io), 16 PK0/AIN16/SSI3CLK (io), 17 PK1/AIN17/SSI3FSS (io), 18 PK2/AIN18/SSI3RX (io), 19 PK3/AIN19/SSI3TX (io), 20 PN2/WT2CCP0 (io), 21 PH7/SSI2TX (io), 22 PH6/SSI2RX (io), 23 PH5/PhB0/SSI2FSS/ (io), 24 VDD (power), 25 GND (power), 26 PH4/PhA0/SSI2CLK (io), 27 PH3/SSI3TX (io), 28 PH2/SSI3RX (io), 29 VDD (power), 30 GND (power), 31 PH1/IDX0/SSI3FSS (io), 32 PH0/SSI3CLK (io), 33 PC7/C0-/U3TX/USB0PFLT (io), 34 PC6/C0+/PhB1/U3RX/USB0EPEN (io), 35 PC5/C1+/PhA1/U1CTS/U1TX/U4TX (io), 36 PC4/C1-/IDX1/U1RTS/U1RX/U4RX (io), 37 PA0/U0RX/CAN1RX (io), 38 PA1/U0TX/CAN1TX (io), 39 PA2/SSI0CLK (io), 40 PA3/SSI0FSS (io), 41 PA4/SSI0RX (io), 42 PA5/SSI0TX (io), 43 VDD (power), 44 GND (power), 45 PA6/I2C1SCL (io), 46 PA7/I2C1SDA (io), 47 PG7/I2C5SDA/IDX1 (io), 48 PG6/I2C5SCL (io), 49 VDDC (power), 50 PG5/I2C1SDA/IDX1/U2TX/USB0PFLT (io), 51 PG4/I2C1SCL/PhB1/U2RX/USB0EPEN (io), 52 PG3/I2C4SDA/PhA1 (io), 53 PG2/I2C4SCL (io), 54 PG1/I2C3SDA/PhB1 (io), 55 PG0/I2C3SCL/PhA1 (io), 56 VDD (power), 57 GND (power), 58 PF7/I2C2SDA (io), 59 PF6/I2C2SCL (io), 60 PF5/USB0PFLT (io), 61 PF4/IDX0/TRD3/U1DTR/USB0EPEN (io), 62 PF0/C0o/CAN0RX/NMI/PhA0/SSI1RX/U1RTS (io), 63 PF1/C1o/PhB0/SSI1TX/TRD1/U1CTS (io), 64 PF2/C2o/SSI1CLK/TRD0/U1DCD (io), 65 PF3/CAN0TX/SSI1FSS/TRCLK (io), 66 VDD (power), 67 GND (power), 68 PN7/M1PWM7 (io), 69 PN6/M1PWM6 (io), 70 PN5/M1PWM5 (io), 71 PN4/M1PWM4 (io), 72 WAKE# (in), 73 HIB# (out), 74 XOSC0 (in), 75 GNDX (power), 76 XOSC1 (out), 77 VBAT (power), 78 VDD (power), 79 GND (power), 80 PN1/CAN0TX (io), 81 PN0/CAN0RX (io), 82 PM7/M0PWM5 (io), 83 PM6/M0PWM4 (io), 84 PM5 (io), 85 PM4 (io), 86 PM3 (io), 87 PM2 (io), 88 PM1 (io), 89 PM0 (io), 90 RST# (in), 91 GND (power), 92 OSC0 (in), 93 OSC1 (out), 94 VDD (power), 95 PL7/USB0DM (io), 96 PL6/USB0DP (io), 97 PB0/USBID/U1RX (io), 98 PB1/USB0VBUS/U1TX (io), 99 PB2/I2C0SCL (io), 100 PB3/I2C0SDA (io), 101 VDD (power), 102 GND (power), 103 PL5 (io), 104 PL4 (io), 105 PL3 (io), 106 PL2 (io), 107 PL1 (io), 108 PL0 (io), 109 PK7 (io), 110 PK6/C2o (io), 111 PK5/C1o (io), 112 PK4/C0o/RTCCLK/U7Rx (io), 113 VDD (power), 114 GND (power), 115 PC3/TDO/SWO (io), 116 PC4/TDI (io), 117 PC1/TMS/SWDIO (io), 118 PC0/TCK/SWCLK (io), 119 PN3/M0PWM7 (io), 120 PJ0/U4RX (io), 121 PJ1/U4TX (io), 122 PJ2/IDX0/U5RX (io), 123 PJ3/U5TX (io), 124 VDD (power), 125 GND (power), 126 VDDC (power), 127 PJ4/C2+/U6RX (io), 128 PJ5/C2-/U6TX (io), 129 PJ6 (io), 130 PJ7 (io), 131 PP0/AIN23/M0PWM0 (io), 132 PP1/AIN22/M0PWM1 (io), 133 PE6/AIN21/CAN1RX (io), 134 PE7/AIN20/CAN1TX/U1RI (io), 135 PB5/AIN11/CAN0TX/M0PWM3/SSI2FSS (io), 136 PB4/AIN10/CAN0RX/M0PWM2/SSI2CLK (io), 137 VDD (power), 138 GND (power), 139 PE4/AIN9/CAN0RX/I2C2SCL/M0PWM4/U5RX (io), 140 PE5/AIN8/CAN0TX/I2C2SDA/M0PWM5/U5TX (io), 141 PD4/AIN7/U6RX (io), 142 PD5/AIN6/U6TX (io), 143 PD6/AIN5/PhA0/U2RX (io), 144 PD7/AIN4/NMI/PhB0/U2TX (io)
text: Tiva-C Series ARM Cortex-M4F Microcontroller TM4C123FH6PMI

## TM4C123GH6PZ
designator DD?
ARM Cortex-M4F MCU 80MHz clock rate with 256KB Flash, 32KB RAM, 2KB EEPROM; Manufacturer: Texas Instruments; Part Number: TM4C123GH6PZ; Package: LQFP-100
footprint LQFP-100 (TSQFP, 100-Leads, Body 14,00x14,00mm, Pitch 0,50mm, IPC Medium Density)
pins: 1 PD0/AIN15/I2C3SCL/M0PWM6/SSI1CLK/SSI3CLK (io), 2 PD1/AIN14/I2C3SDA/M0PWM7/SSI1FSS/SSI3FSS (io), 3 PD2/AIN13/M0FAULT0/SSI1RX/SSI3RX/USB0EPEN (io), 4 PD3/AIN12/IDX0/SSI1TX/SSI3TX/USB0PFLT (io), 5 VDD (power), 6 GND (power), 7 VDDA (power), 8 VREFA+ (in), 9 VREFA- (in), 10 GNDA (power), 11 PJ2/IDX0/T2CCP0/U5RX (io), 12 PE3/AIN0 (io), 13 PE2/AIN1 (io), 14 PE1/AIN2/U7TX (io), 15 PE0/AIN3/U7RX (io), 16 PH0/AIN16/M0FAULT0/M0PWM0/SSI3CLK/WT2CCP0 (io), 17 PH1/AIN17/IDX0/M0FAULT1/M0PWM1/SSI3FSS (io), 18 PH2/AIN18/M0FAULT2/M0PWM2/SSI3RX/WT5CCP0 (io), 19 PH3/AIN19/M0FAULT3/M0PWM3/SSI3TX/WT5CCP1 (io), 20 VDD (io), 21 GND (io), 22 PC7/C0-/U3TX/USB0PFLT/WT1CCP1 (io), 23 PC6/C0+/PhB1/U3RX/USB0EPEN/WT1CCP0 (io), 24 PC5/C1+/M0PWM7/PhA1/U1CTS/U1TX/U4TX (io), 25 PC4/C1-/IDX1/M0PWM6/U1RTS/U1RX/U4RX (io), 26 PA0/CAN1RX/U0RX (io), 27 PA1/CAN1TX/U0TX (io), 28 PA2/SSI0CLK (io), 29 PA3/SSI0FSS (io), 30 PA4/SSI0RX (io), 31 PA5/SSI0TX (io), 32 VDD (power), 33 GND (power), 34 PA6/I2C1SCL/M1PWM2 (io), 35 PA7/I2C1SDA/M1PWM3 (io), 36 PF6/I2C2SCL/T3CCP0 (io), 37 PF5/M0FAULT3/T2CCP1/USB0PFLT (io), 38 VDDC (power), 39 PF4/IDX0/M0FAULT2/M1FAULT0/U1DTR/USB0EPEN (io), 40 PF0/C0o/CAN0RX/M1PWM4/NMI/PhA0/SSI1RX/U1RTS (io), 41 PF1/C1o/M1PWM5/PhB0/SSI1TX/T0CCP1/U1CTS (io), 42 PF2/C2o/M0FAULT0/M1PWM6/SSI1CLK/U1DCD (io), 43 PF3/CAN0TX/M0FAULT1/M1PWM7/SSI1FSS/U1DSR (io), 44 VDD (power), 45 GND (power), 46 PK3/M1FAULT3/SSI3TX (io), 47 PK2/M1FAULT2/SSI3RX (io), 48 PK1/M1FAULT1/SSI3FSS (io), 49 PK0/M1FAULT0/SSI3CLK (io), 50 WAKE# (in), 51 HIB# (out), 52 XOSC0 (in), 53 GNDX (power), 54 XOSC1 (out), 55 VBAT (power), 56 VDD (power), 57 GND (power), 58 PF7/I2C2SDA/M1FAULT0/T3CCP1 (io), 59 PG3/I2C4SDA/M0FAULT2/M1PWM1/PhA1/T5CCP1 (io), 60 PG2/I2C4SCL/M0FAULT1/M1PWM0/T5CCP0 (io), 61 PG1/I2C3SDA/M1FAULT2/PhB1/T4CCP1 (io), 62 PG0/I2C3SCL/M1FAULT1/PhA1/T4CCP0 (io), 63 RST# (in), 64 GND (power), 65 OSC0 (in), 66 OSC1 (out), 67 VDD (power), 68 PJ0/T1CCP0/U4RX/USB0DM (io), 69 PJ1/T1CCP1/U4TX/USB0DP (io), 70 PB0/T2CCP0/U1RX/USB0ID (io), 71 PB1/T2CCP1/U1TX/USB0VBUS (io), 72 PB2/I2C0SCL/T3CCP0 (io), 73 PB3/I2C0SDA/T3CCP1 (io), 74 PG4/I2C1SCL/M0PWM4/M1PWM2/PhB1/U2RX (io), 75 PG5/I2C1SDA/IDX1/M0PWM5/M1PWM3/U2TX (io), 76 PH7/M0PWM7/SSI2TX/WT4CCP1 (io), 77 PH6/M0PWM6/SSI2RX/WT4CCP0 (io), 78 PH5/M0PWM5/PhB0/SSI2FSS/WT3CCP1 (io), 79 PH4/M0PWM4/PhA0/SSI2CLK/WT3CCP0 (io), 80 VDD (power), 81 GND (power), 82 PC3/SWO/T5CCP1/TDO (io), 83 PC2/T5CCP0/TDI (io), 84 PC1/SWDIO/T4CCP1/TMS (io), 85 PC0/SWCLK/T4CCP0/TCK (io), 86 VDDC (power), 87 PG6/C2+/I2C5SCL/M0PWM6/WT1CCP0 (io), 88 PG7/C2-/I2C5SDA/IDX1/M0PWM7/WT1CCP1 (io), 89 PE6/AIN21/CAN1RX (io), 90 PE7/AIN20/CAN1TX/U1RI (io), 91 PB5/AIN11/CAN0TX/M0PWM3/SSI2FSS/T1CCP1 (io), 92 PB4/AIN10/CAN0RX/M0PWM2/SSI2CLK/T1CCP0 (io), 93 VDD (io), 94 GND (io), 95 PE4/AIN9/CAN0RX/I2C2SCL/M0PWM4/U5Rx (io), 96 PE5/AIN8/CAN0TX/I2C2SDA/M0PWM5/U5TX (io), 97 PD4/AIN7/U6RX/WT4CCP0 (io), 98 PD5/AIN6/U6TX/WT4CCP1 (io), 99 PD6/AIN5/M0FAULT0/PhA0/U2RX/WT5CCP0 (io), 100 PD7/AIN4/M0FAULT1/NMI/PhB0/U2TX/WT5CCP1 (io)
text: Tiva-C Series ARM Cortex-M4F Microcontroller TM4C123FH6PMI

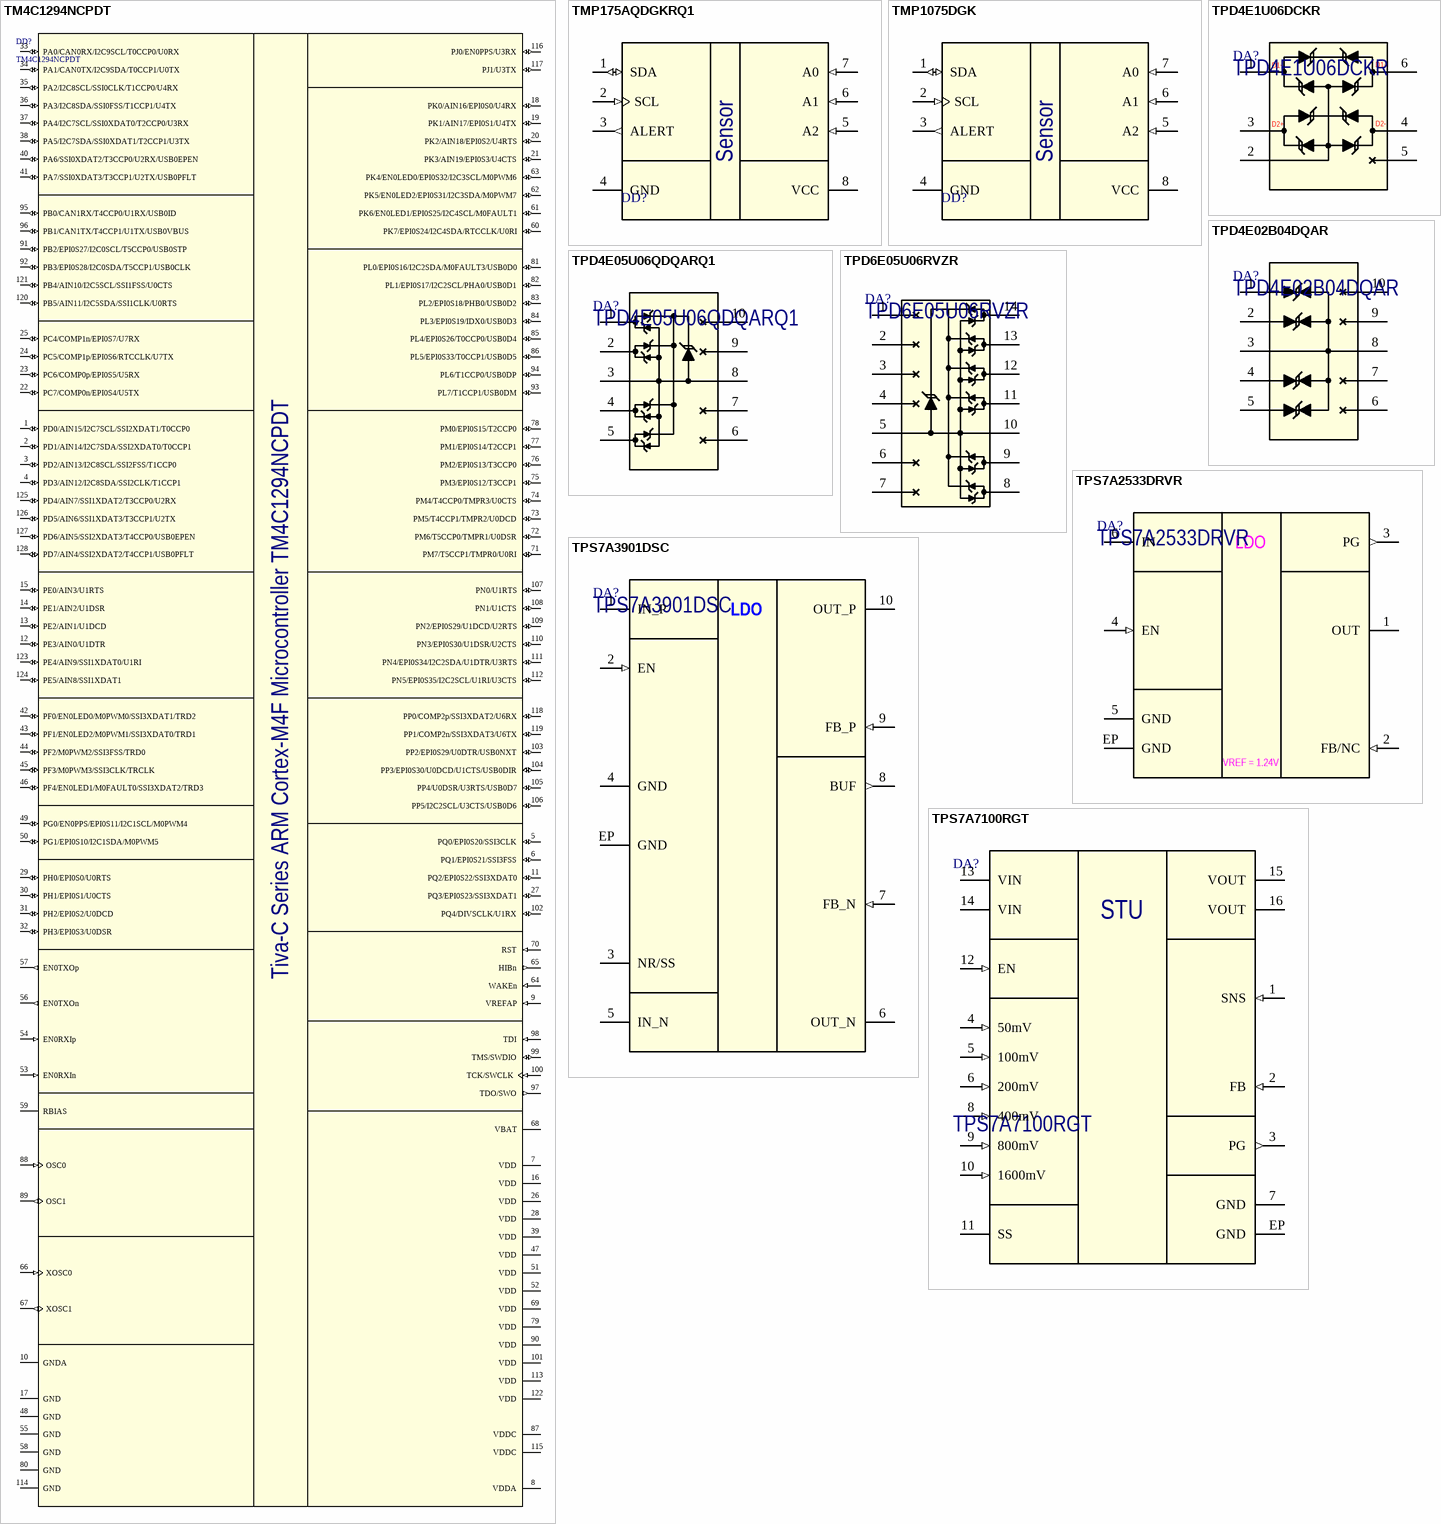
[diagram p21: symbols TM4C1294NCPDT to TPS7A7100RGT]